# Altium integrated library Altera MAX 7000S.IntLib: 338 symbols (part 16 of 20)
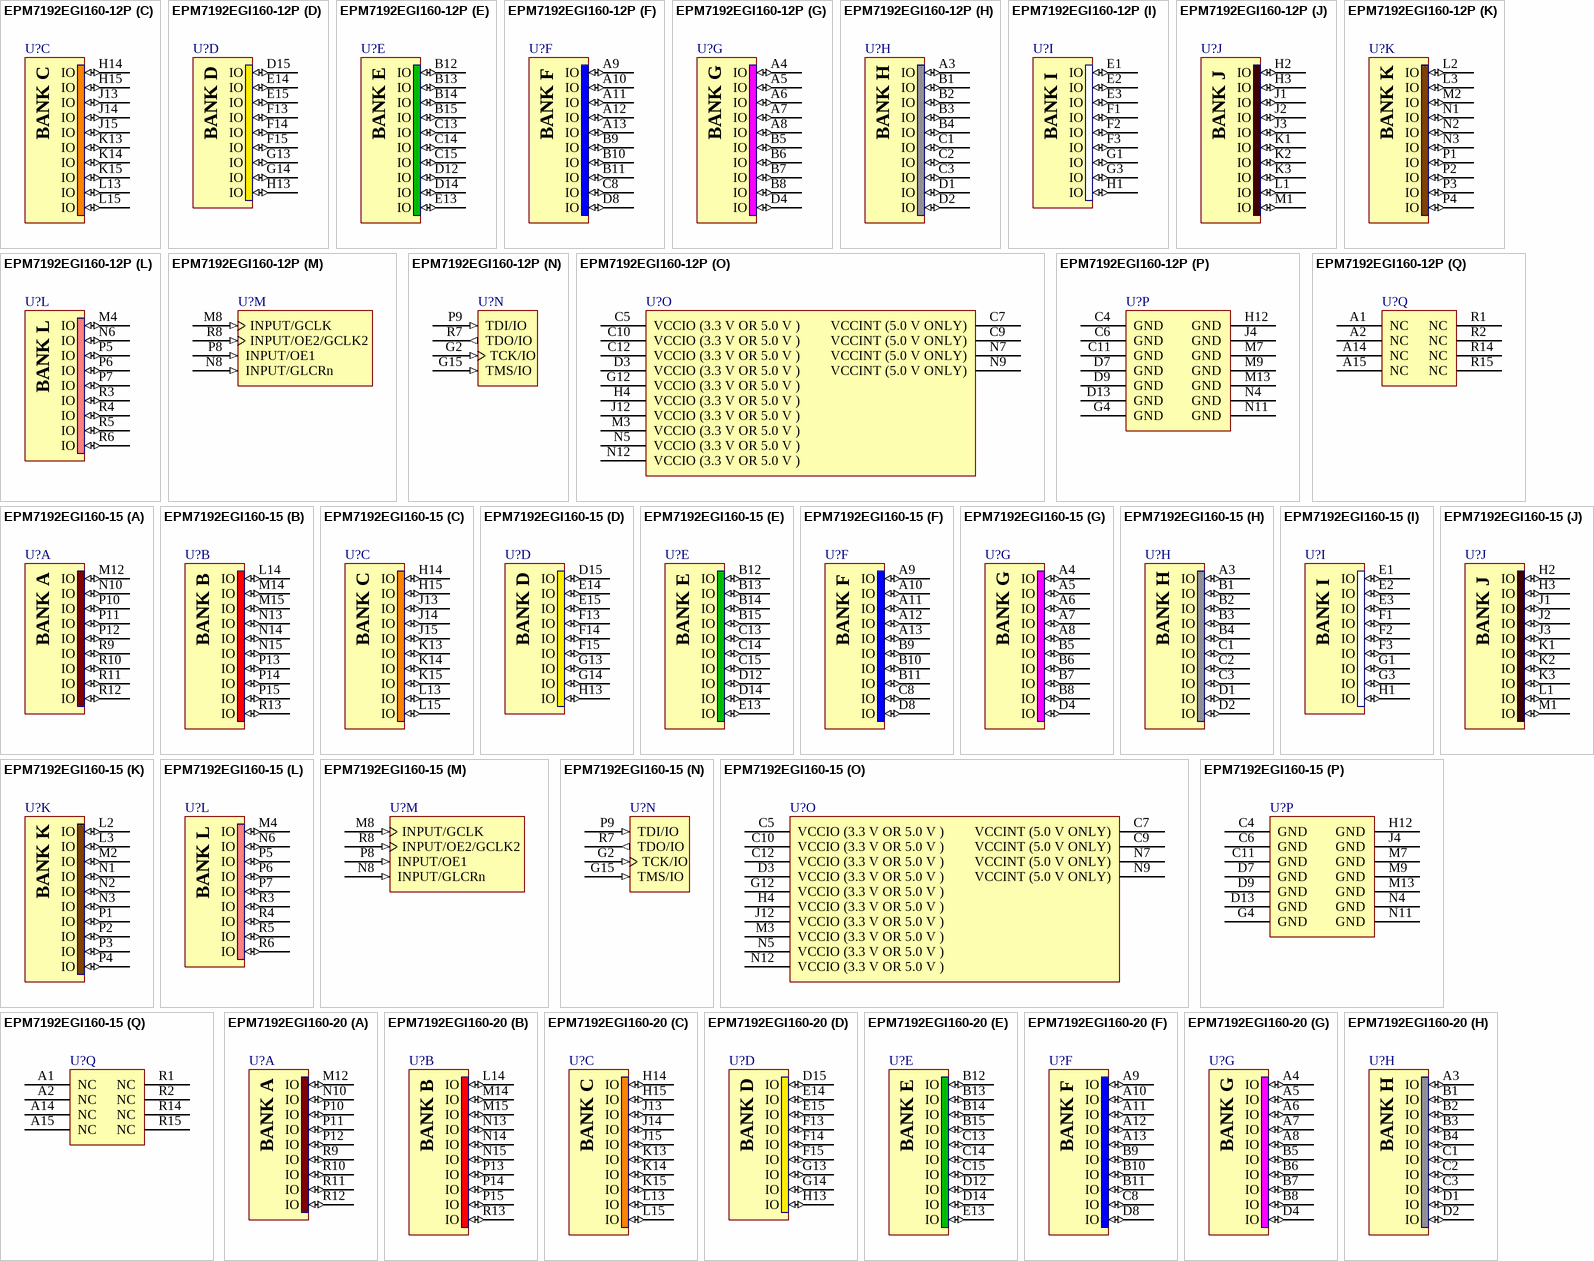
[diagram p119: symbols EPM7192EGI160-12P to EPM7192EGI160-20]

## EPM7192EGI160-12P
designator U?
MAX 7000E 5V CPLD, 192 Macrocells, 160-Pin PGA, Speed Grade 12P, Industrial Grade; Published: 17-Sep-2003; LatestRevisionDate: 16-Dec-2005; LatestRevisionNote: Banks placed in parts.; DatasheetVersion: ver6.7, Sep-2005; PackageVersion: ver14.3, Jul-2006; PackageReference: PGA160; Publisher: Altium Limited; PackageDescription: 160-Pin Ceramic Pin Grid Array (PGA160); Code_JEDEC: MO-067-AG; ComponentLink1Description: Manufacturer Link; ComponentLink1URL: http://www.altera.com/products/devices/max7k/m7k-index.html; ComponentLink2Description: Datasheet; ComponentLink2URL: http://www.altera.com/literature/ds/m7000.pdf; ComponentLink3Description: Packaging Specification; ComponentLink3URL: http://www.altera.com/literature/ds/dspkg.pdf
footprint PGA160 (PGA, 160-Leads, Body 39.6x39.6mm, Pitch 2.54mm)
3D model EPM7192E-PGA160 (160-Pin Ceramic Pin Grid Array (PGA160))
signal-integrity model 7k (MAX 7000S)
part A pins: M12 IO (io), N10 IO (io), P10 IO (io), P11 IO (io), P12 IO (io), R9 IO (io), R10 IO (io), R11 IO (io), R12 IO (io)
part B pins: L14 IO (io), M14 IO (io), M15 IO (io), N13 IO (io), N14 IO (io), N15 IO (io), P13 IO (io), P14 IO (io), P15 IO (io), R13 IO (io)
part C pins: H14 IO (io), H15 IO (io), J13 IO (io), J14 IO (io), J15 IO (io), K13 IO (io), K14 IO (io), K15 IO (io), L13 IO (io), L15 IO (io)
part D pins: D15 IO (io), E14 IO (io), E15 IO (io), F13 IO (io), F14 IO (io), F15 IO (io), G13 IO (io), G14 IO (io), H13 IO (io)
part E pins: B12 IO (io), B13 IO (io), B14 IO (io), B15 IO (io), C13 IO (io), C14 IO (io), C15 IO (io), D12 IO (io), D14 IO (io), E13 IO (io)
part F pins: A9 IO (io), A10 IO (io), A11 IO (io), A12 IO (io), A13 IO (io), B9 IO (io), B10 IO (io), B11 IO (io), C8 IO (io), D8 IO (io)
part G pins: A4 IO (io), A5 IO (io), A6 IO (io), A7 IO (io), A8 IO (io), B5 IO (io), B6 IO (io), B7 IO (io), B8 IO (io), D4 IO (io)
part H pins: A3 IO (io), B1 IO (io), B2 IO (io), B3 IO (io), B4 IO (io), C1 IO (io), C2 IO (io), C3 IO (io), D1 IO (io), D2 IO (io)
part I pins: E1 IO (io), E2 IO (io), E3 IO (io), F1 IO (io), F2 IO (io), F3 IO (io), G1 IO (io), G3 IO (io), H1 IO (io)
part J pins: H2 IO (io), H3 IO (io), J1 IO (io), J2 IO (io), J3 IO (io), K1 IO (io), K2 IO (io), K3 IO (io), L1 IO (io), M1 IO (io)
part K pins: L2 IO (io), L3 IO (io), M2 IO (io), N1 IO (io), N2 IO (io), N3 IO (io), P1 IO (io), P2 IO (io), P3 IO (io), P4 IO (io)
part L pins: M4 IO (io), N6 IO (io), P5 IO (io), P6 IO (io), P7 IO (io), R3 IO (io), R4 IO (io), R5 IO (io), R6 IO (io)
part M pins: M8 INPUT/GCLK (in), N8 INPUT/GLCRn (in), P8 INPUT/OE1 (in), R8 INPUT/OE2/GCLK2 (in)
part N pins: G2 TCK/IO (in), G15 TMS/IO (in), P9 TDI/IO (in), R7 TDO/IO (out)
part O pins: C5 VCCIO (3.3 V OR 5.0 V ) (power), C7 VCCINT (5.0 V ONLY) (power), C9 VCCINT (5.0 V ONLY) (power), C10 VCCIO (3.3 V OR 5.0 V ) (power), C12 VCCIO (3.3 V OR 5.0 V ) (power), D3 VCCIO (3.3 V OR 5.0 V ) (power), G12 VCCIO (3.3 V OR 5.0 V ) (power), H4 VCCIO (3.3 V OR 5.0 V ) (power), J12 VCCIO (3.3 V OR 5.0 V ) (power), M3 VCCIO (3.3 V OR 5.0 V ) (power), N5 VCCIO (3.3 V OR 5.0 V ) (power), N7 VCCINT (5.0 V ONLY) (power), N9 VCCINT (5.0 V ONLY) (power), N12 VCCIO (3.3 V OR 5.0 V ) (power)
part P pins: C4 GND (power), C6 GND (power), C11 GND (power), D7 GND (power), D9 GND (power), D13 GND (power), G4 GND (power), H12 GND (power), J4 GND (power), M7 GND (power), M9 GND (power), M13 GND (power), N4 GND (power), N11 GND (power)
part Q pins: A1 NC, A2 NC, A14 NC, A15 NC, R1 NC, R2 NC, R14 NC, R15 NC
part A text: BANK A
part B text: BANK B
part C text: BANK C
part D text: BANK D
part E text: BANK E
part F text: BANK F
part G text: BANK G
part H text: BANK H
part I text: BANK I
part J text: BANK J
part K text: BANK K
part L text: BANK L

## EPM7192EGI160-15
designator U?
MAX 7000E 5V CPLD, 192 Macrocells, 160-Pin PGA, Speed Grade 15, Industrial Grade; Published: 24-Nov-2000; LatestRevisionDate: 16-Dec-2005; LatestRevisionNote: Banks placed in parts.; DatasheetVersion: ver6.7, Sep-2005; PackageVersion: ver14.3, Jul-2006; PackageReference: PGA160; Publisher: Altium Limited; PackageDescription: 160-Pin Ceramic Pin Grid Array (PGA160); Code_JEDEC: MO-067-AG; ComponentLink1Description: Manufacturer Link; ComponentLink1URL: http://www.altera.com/products/devices/max7k/m7k-index.html; ComponentLink2Description: Datasheet; ComponentLink2URL: http://www.altera.com/literature/ds/m7000.pdf; ComponentLink3Description: Packaging Specification; ComponentLink3URL: http://www.altera.com/literature/ds/dspkg.pdf
footprint PGA160 (PGA, 160-Leads, Body 39.6x39.6mm, Pitch 2.54mm)
3D model EPM7192E-PGA160 (160-Pin Ceramic Pin Grid Array (PGA160))
signal-integrity model 7k (MAX 7000S)
part A pins: M12 IO (io), N10 IO (io), P10 IO (io), P11 IO (io), P12 IO (io), R9 IO (io), R10 IO (io), R11 IO (io), R12 IO (io)
part B pins: L14 IO (io), M14 IO (io), M15 IO (io), N13 IO (io), N14 IO (io), N15 IO (io), P13 IO (io), P14 IO (io), P15 IO (io), R13 IO (io)
part C pins: H14 IO (io), H15 IO (io), J13 IO (io), J14 IO (io), J15 IO (io), K13 IO (io), K14 IO (io), K15 IO (io), L13 IO (io), L15 IO (io)
part D pins: D15 IO (io), E14 IO (io), E15 IO (io), F13 IO (io), F14 IO (io), F15 IO (io), G13 IO (io), G14 IO (io), H13 IO (io)
part E pins: B12 IO (io), B13 IO (io), B14 IO (io), B15 IO (io), C13 IO (io), C14 IO (io), C15 IO (io), D12 IO (io), D14 IO (io), E13 IO (io)
part F pins: A9 IO (io), A10 IO (io), A11 IO (io), A12 IO (io), A13 IO (io), B9 IO (io), B10 IO (io), B11 IO (io), C8 IO (io), D8 IO (io)
part G pins: A4 IO (io), A5 IO (io), A6 IO (io), A7 IO (io), A8 IO (io), B5 IO (io), B6 IO (io), B7 IO (io), B8 IO (io), D4 IO (io)
part H pins: A3 IO (io), B1 IO (io), B2 IO (io), B3 IO (io), B4 IO (io), C1 IO (io), C2 IO (io), C3 IO (io), D1 IO (io), D2 IO (io)
part I pins: E1 IO (io), E2 IO (io), E3 IO (io), F1 IO (io), F2 IO (io), F3 IO (io), G1 IO (io), G3 IO (io), H1 IO (io)
part J pins: H2 IO (io), H3 IO (io), J1 IO (io), J2 IO (io), J3 IO (io), K1 IO (io), K2 IO (io), K3 IO (io), L1 IO (io), M1 IO (io)
part K pins: L2 IO (io), L3 IO (io), M2 IO (io), N1 IO (io), N2 IO (io), N3 IO (io), P1 IO (io), P2 IO (io), P3 IO (io), P4 IO (io)
part L pins: M4 IO (io), N6 IO (io), P5 IO (io), P6 IO (io), P7 IO (io), R3 IO (io), R4 IO (io), R5 IO (io), R6 IO (io)
part M pins: M8 INPUT/GCLK (in), N8 INPUT/GLCRn (in), P8 INPUT/OE1 (in), R8 INPUT/OE2/GCLK2 (in)
part N pins: G2 TCK/IO (in), G15 TMS/IO (in), P9 TDI/IO (in), R7 TDO/IO (out)
part O pins: C5 VCCIO (3.3 V OR 5.0 V ) (power), C7 VCCINT (5.0 V ONLY) (power), C9 VCCINT (5.0 V ONLY) (power), C10 VCCIO (3.3 V OR 5.0 V ) (power), C12 VCCIO (3.3 V OR 5.0 V ) (power), D3 VCCIO (3.3 V OR 5.0 V ) (power), G12 VCCIO (3.3 V OR 5.0 V ) (power), H4 VCCIO (3.3 V OR 5.0 V ) (power), J12 VCCIO (3.3 V OR 5.0 V ) (power), M3 VCCIO (3.3 V OR 5.0 V ) (power), N5 VCCIO (3.3 V OR 5.0 V ) (power), N7 VCCINT (5.0 V ONLY) (power), N9 VCCINT (5.0 V ONLY) (power), N12 VCCIO (3.3 V OR 5.0 V ) (power)
part P pins: C4 GND (power), C6 GND (power), C11 GND (power), D7 GND (power), D9 GND (power), D13 GND (power), G4 GND (power), H12 GND (power), J4 GND (power), M7 GND (power), M9 GND (power), M13 GND (power), N4 GND (power), N11 GND (power)
part Q pins: A1 NC, A2 NC, A14 NC, A15 NC, R1 NC, R2 NC, R14 NC, R15 NC
part A text: BANK A
part B text: BANK B
part C text: BANK C
part D text: BANK D
part E text: BANK E
part F text: BANK F
part G text: BANK G
part H text: BANK H
part I text: BANK I
part J text: BANK J
part K text: BANK K
part L text: BANK L

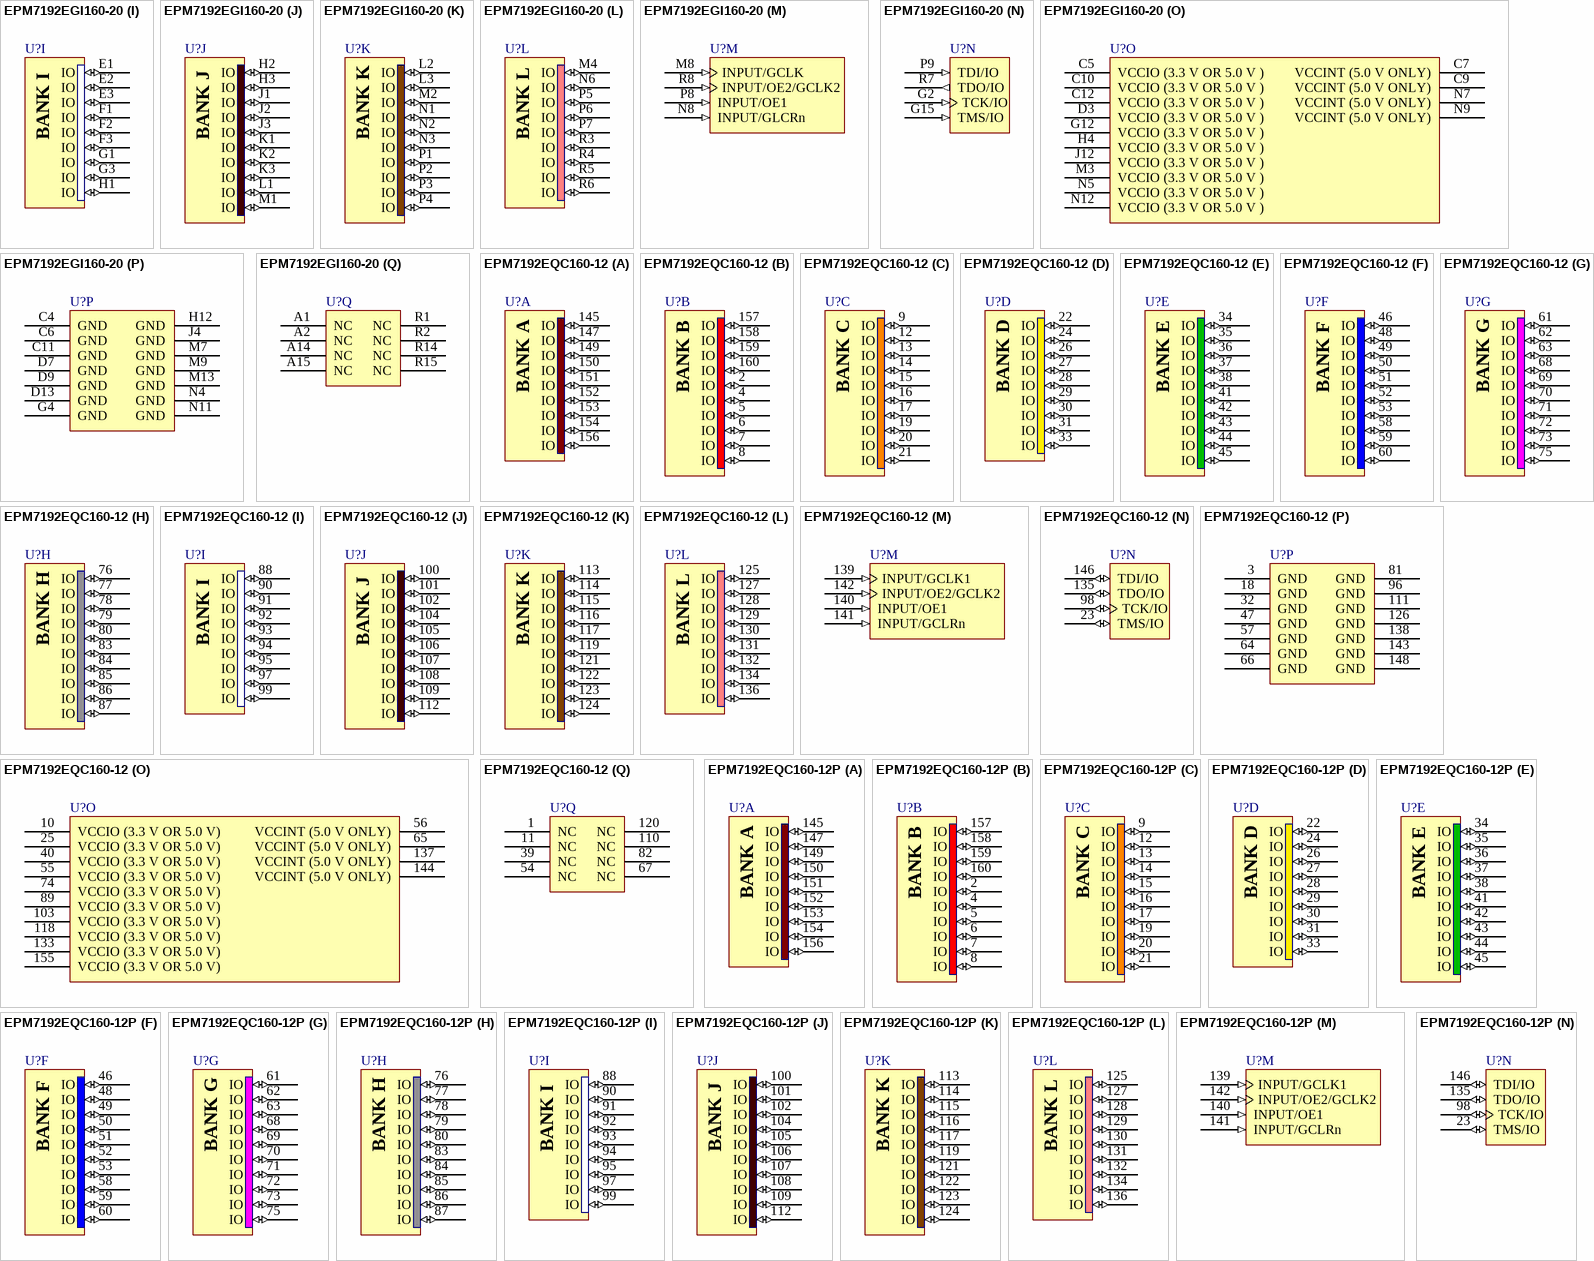
[diagram p80: symbols EPM7192EGI160-20 to EPM7192EQC160-12P]

## EPM7192EGI160-20
designator U?
MAX 7000E 5V CPLD, 192 Macrocells, 160-Pin PGA, Speed Grade 20, Industrial Grade; Published: 24-Nov-2000; LatestRevisionDate: 16-Dec-2005; LatestRevisionNote: Banks placed in parts.; DatasheetVersion: ver6.7, Sep-2005; PackageVersion: ver14.3, Jul-2006; PackageReference: PGA160; Publisher: Altium Limited; PackageDescription: 160-Pin Ceramic Pin Grid Array (PGA160); Supplier 1: Digi-Key; Supplier Part Number 1: 544-2341-ND; Code_JEDEC: MO-067-AG; ComponentLink1Description: Manufacturer Link; ComponentLink1URL: http://www.altera.com/products/devices/max7k/m7k-index.html; ComponentLink2Description: Datasheet; ComponentLink2URL: http://www.altera.com/literature/ds/m7000.pdf; ComponentLink3Description: Packaging Specification; ComponentLink3URL: http://www.altera.com/literature/ds/dspkg.pdf
footprint PGA160 (PGA, 160-Leads, Body 39.6x39.6mm, Pitch 2.54mm)
3D model EPM7192E-PGA160 (160-Pin Ceramic Pin Grid Array (PGA160))
signal-integrity model 7k (MAX 7000S)
part A pins: M12 IO (io), N10 IO (io), P10 IO (io), P11 IO (io), P12 IO (io), R9 IO (io), R10 IO (io), R11 IO (io), R12 IO (io)
part B pins: L14 IO (io), M14 IO (io), M15 IO (io), N13 IO (io), N14 IO (io), N15 IO (io), P13 IO (io), P14 IO (io), P15 IO (io), R13 IO (io)
part C pins: H14 IO (io), H15 IO (io), J13 IO (io), J14 IO (io), J15 IO (io), K13 IO (io), K14 IO (io), K15 IO (io), L13 IO (io), L15 IO (io)
part D pins: D15 IO (io), E14 IO (io), E15 IO (io), F13 IO (io), F14 IO (io), F15 IO (io), G13 IO (io), G14 IO (io), H13 IO (io)
part E pins: B12 IO (io), B13 IO (io), B14 IO (io), B15 IO (io), C13 IO (io), C14 IO (io), C15 IO (io), D12 IO (io), D14 IO (io), E13 IO (io)
part F pins: A9 IO (io), A10 IO (io), A11 IO (io), A12 IO (io), A13 IO (io), B9 IO (io), B10 IO (io), B11 IO (io), C8 IO (io), D8 IO (io)
part G pins: A4 IO (io), A5 IO (io), A6 IO (io), A7 IO (io), A8 IO (io), B5 IO (io), B6 IO (io), B7 IO (io), B8 IO (io), D4 IO (io)
part H pins: A3 IO (io), B1 IO (io), B2 IO (io), B3 IO (io), B4 IO (io), C1 IO (io), C2 IO (io), C3 IO (io), D1 IO (io), D2 IO (io)
part I pins: E1 IO (io), E2 IO (io), E3 IO (io), F1 IO (io), F2 IO (io), F3 IO (io), G1 IO (io), G3 IO (io), H1 IO (io)
part J pins: H2 IO (io), H3 IO (io), J1 IO (io), J2 IO (io), J3 IO (io), K1 IO (io), K2 IO (io), K3 IO (io), L1 IO (io), M1 IO (io)
part K pins: L2 IO (io), L3 IO (io), M2 IO (io), N1 IO (io), N2 IO (io), N3 IO (io), P1 IO (io), P2 IO (io), P3 IO (io), P4 IO (io)
part L pins: M4 IO (io), N6 IO (io), P5 IO (io), P6 IO (io), P7 IO (io), R3 IO (io), R4 IO (io), R5 IO (io), R6 IO (io)
part M pins: M8 INPUT/GCLK (in), N8 INPUT/GLCRn (in), P8 INPUT/OE1 (in), R8 INPUT/OE2/GCLK2 (in)
part N pins: G2 TCK/IO (in), G15 TMS/IO (in), P9 TDI/IO (in), R7 TDO/IO (out)
part O pins: C5 VCCIO (3.3 V OR 5.0 V ) (power), C7 VCCINT (5.0 V ONLY) (power), C9 VCCINT (5.0 V ONLY) (power), C10 VCCIO (3.3 V OR 5.0 V ) (power), C12 VCCIO (3.3 V OR 5.0 V ) (power), D3 VCCIO (3.3 V OR 5.0 V ) (power), G12 VCCIO (3.3 V OR 5.0 V ) (power), H4 VCCIO (3.3 V OR 5.0 V ) (power), J12 VCCIO (3.3 V OR 5.0 V ) (power), M3 VCCIO (3.3 V OR 5.0 V ) (power), N5 VCCIO (3.3 V OR 5.0 V ) (power), N7 VCCINT (5.0 V ONLY) (power), N9 VCCINT (5.0 V ONLY) (power), N12 VCCIO (3.3 V OR 5.0 V ) (power)
part P pins: C4 GND (power), C6 GND (power), C11 GND (power), D7 GND (power), D9 GND (power), D13 GND (power), G4 GND (power), H12 GND (power), J4 GND (power), M7 GND (power), M9 GND (power), M13 GND (power), N4 GND (power), N11 GND (power)
part Q pins: A1 NC, A2 NC, A14 NC, A15 NC, R1 NC, R2 NC, R14 NC, R15 NC
part A text: BANK A
part B text: BANK B
part C text: BANK C
part D text: BANK D
part E text: BANK E
part F text: BANK F
part G text: BANK G
part H text: BANK H
part I text: BANK I
part J text: BANK J
part K text: BANK K
part L text: BANK L

## EPM7192EQC160-12
designator U?
MAX 7000E 5V CPLD, 192 Macrocells, 160-Pin PQFP, Speed Grade 12, Commercial Grade; Published: 24-Nov-2000; LatestRevisionDate: 13-Apr-2006; LatestRevisionNote: IPC-7351 Footprint Added.; DatasheetVersion: ver6.7, Sep-2005; PackageVersion: ver14.3, Jul-2006; PackageReference: PQFP160; Publisher: Altium Limited; PackageDescription: 160-Pin Plastic Quad Flat Pack (PFQP160); Code_JEDEC: MS-022-DD-1; Code_IPC: QFP65P3120X3120-160; ComponentLink1Description: Manufacturer Link; ComponentLink1URL: http://www.altera.com/products/devices/max7k/m7k-index.html; ComponentLink2Description: Datasheet; ComponentLink2URL: http://www.altera.com/literature/ds/m7000.pdf; ComponentLink3Description: Packaging Specification; ComponentLink3URL: http://www.altera.com/literature/ds/dspkg.pdf
footprint PQFP160_N (QFP, 160-Leads, Body 28x28mm, Pitch 0.65mm, IPC Medium Density)
footprint PQFP160_L (QFP, 160-Leads, Body 28x28mm, Pitch 0.65mm, IPC High Density)
footprint PQFP160_M (QFP, 160-Leads, Body 28x28mm, Pitch 0.65mm, IPC Low Density)
3D model EPM7192E-PQFP160 (160-Pin Plastic Quad Flat Pack (PFQP160))
signal-integrity model 7k (MAX 7000S)
part A pins: 145 IO (io), 147 IO (io), 149 IO (io), 150 IO (io), 151 IO (io), 152 IO (io), 153 IO (io), 154 IO (io), 156 IO (io)
part B pins: 2 IO (io), 4 IO (io), 5 IO (io), 6 IO (io), 7 IO (io), 8 IO (io), 157 IO (io), 158 IO (io), 159 IO (io), 160 IO (io)
part C pins: 9 IO (io), 12 IO (io), 13 IO (io), 14 IO (io), 15 IO (io), 16 IO (io), 17 IO (io), 19 IO (io), 20 IO (io), 21 IO (io)
part D pins: 22 IO (io), 24 IO (io), 26 IO (io), 27 IO (io), 28 IO (io), 29 IO (io), 30 IO (io), 31 IO (io), 33 IO (io)
part E pins: 34 IO (io), 35 IO (io), 36 IO (io), 37 IO (io), 38 IO (io), 41 IO (io), 42 IO (io), 43 IO (io), 44 IO (io), 45 IO (io)
part F pins: 46 IO (io), 48 IO (io), 49 IO (io), 50 IO (io), 51 IO (io), 52 IO (io), 53 IO (io), 58 IO (io), 59 IO (io), 60 IO (io)
part G pins: 61 IO (io), 62 IO (io), 63 IO (io), 68 IO (io), 69 IO (io), 70 IO (io), 71 IO (io), 72 IO (io), 73 IO (io), 75 IO (io)
part H pins: 76 IO (io), 77 IO (io), 78 IO (io), 79 IO (io), 80 IO (io), 83 IO (io), 84 IO (io), 85 IO (io), 86 IO (io), 87 IO (io)
part I pins: 88 IO (io), 90 IO (io), 91 IO (io), 92 IO (io), 93 IO (io), 94 IO (io), 95 IO (io), 97 IO (io), 99 IO (io)
part J pins: 100 IO (io), 101 IO (io), 102 IO (io), 104 IO (io), 105 IO (io), 106 IO (io), 107 IO (io), 108 IO (io), 109 IO (io), 112 IO (io)
part K pins: 113 IO (io), 114 IO (io), 115 IO (io), 116 IO (io), 117 IO (io), 119 IO (io), 121 IO (io), 122 IO (io), 123 IO (io), 124 IO (io)
part L pins: 125 IO (io), 127 IO (io), 128 IO (io), 129 IO (io), 130 IO (io), 131 IO (io), 132 IO (io), 134 IO (io), 136 IO (io)
part M pins: 139 INPUT/GCLK1 (in), 140 INPUT/OE1 (in), 141 INPUT/GCLRn (in), 142 INPUT/OE2/GCLK2 (in)
part N pins: 23 TMS/IO (io), 98 TCK/IO (io), 135 TDO/IO (io), 146 TDI/IO (io)
part O pins: 10 VCCIO (3.3 V OR 5.0 V) (power), 25 VCCIO (3.3 V OR 5.0 V) (power), 40 VCCIO (3.3 V OR 5.0 V) (power), 55 VCCIO (3.3 V OR 5.0 V) (power), 56 VCCINT (5.0 V ONLY) (power), 65 VCCINT (5.0 V ONLY) (power), 74 VCCIO (3.3 V OR 5.0 V) (power), 89 VCCIO (3.3 V OR 5.0 V) (power), 103 VCCIO (3.3 V OR 5.0 V) (power), 118 VCCIO (3.3 V OR 5.0 V) (power), 133 VCCIO (3.3 V OR 5.0 V) (power), 137 VCCINT (5.0 V ONLY) (power), 144 VCCINT (5.0 V ONLY) (power), 155 VCCIO (3.3 V OR 5.0 V) (power)
part P pins: 3 GND (power), 18 GND (power), 32 GND (power), 47 GND (power), 57 GND (power), 64 GND (power), 66 GND (power), 81 GND (power), 96 GND (power), 111 GND (power), 126 GND (power), 138 GND (power), 143 GND (power), 148 GND (power)
part Q pins: 1 NC, 11 NC, 39 NC, 54 NC, 67 NC, 82 NC, 110 NC, 120 NC
part A text: BANK A
part B text: BANK B
part C text: BANK C
part D text: BANK D
part E text: BANK E
part F text: BANK F
part G text: BANK G
part H text: BANK H
part I text: BANK I
part J text: BANK J
part K text: BANK K
part L text: BANK L

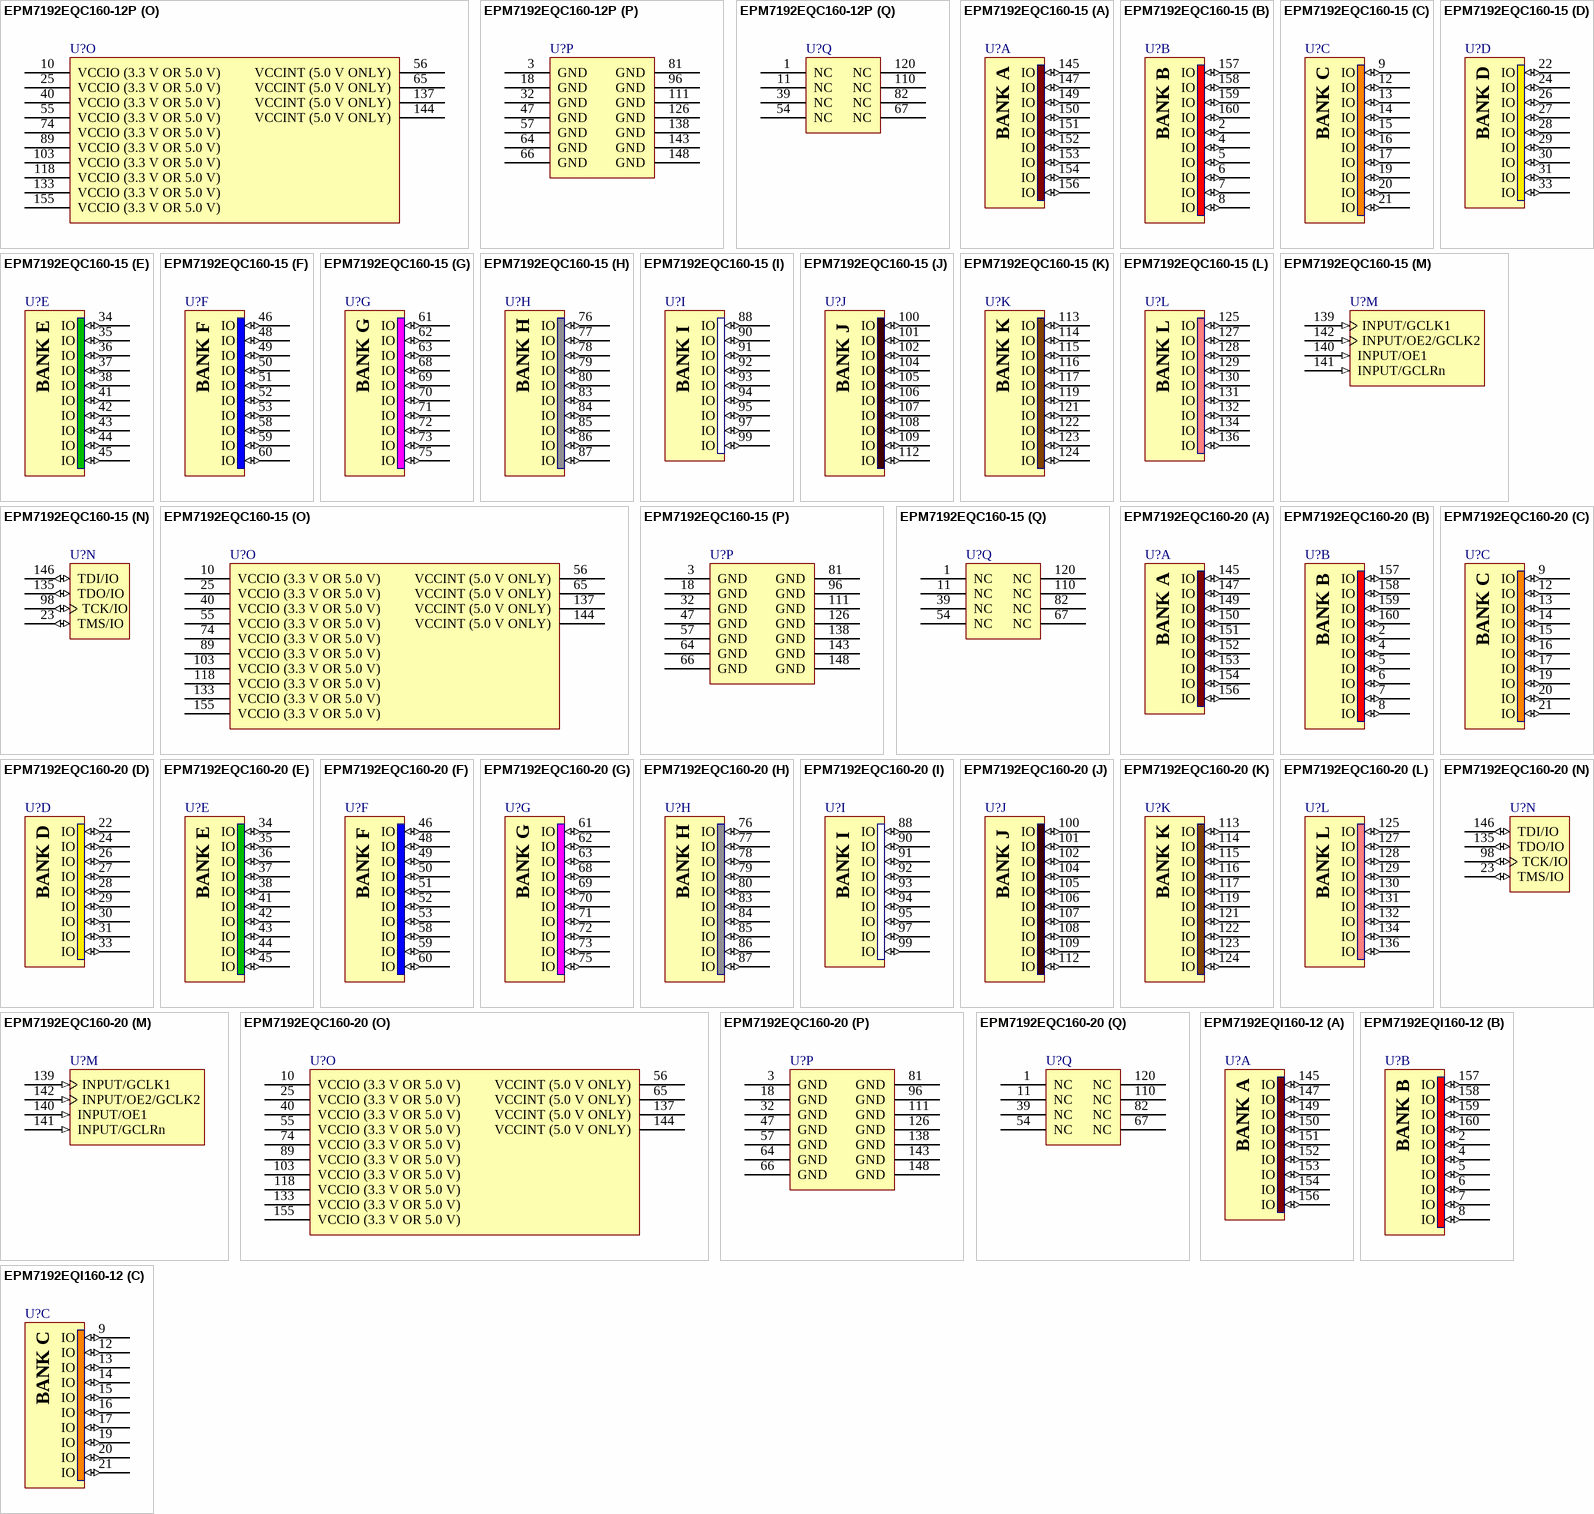
[diagram p81: symbols EPM7192EQC160-12P to EPM7192EQI160-12]

## EPM7192EQC160-12P
designator U?
MAX 7000E 5V CPLD, 192 Macrocells, 160-Pin PQFP, Speed Grade 12P, Commercial Grade; Published: 24-Nov-2000; LatestRevisionDate: 13-Apr-2006; LatestRevisionNote: IPC-7351 Footprint Added.; DatasheetVersion: ver6.7, Sep-2005; PackageVersion: ver14.3, Jul-2006; PackageReference: PQFP160; Publisher: Altium Limited; PackageDescription: 160-Pin Plastic Quad Flat Pack (PFQP160); Code_JEDEC: MS-022-DD-1; Code_IPC: QFP65P3120X3120-160; ComponentLink1Description: Manufacturer Link; ComponentLink1URL: http://www.altera.com/products/devices/max7k/m7k-index.html; ComponentLink2Description: Datasheet; ComponentLink2URL: http://www.altera.com/literature/ds/m7000.pdf; ComponentLink3Description: Packaging Specification; ComponentLink3URL: http://www.altera.com/literature/ds/dspkg.pdf
footprint PQFP160_N (QFP, 160-Leads, Body 28x28mm, Pitch 0.65mm, IPC Medium Density)
footprint PQFP160_L (QFP, 160-Leads, Body 28x28mm, Pitch 0.65mm, IPC High Density)
footprint PQFP160_M (QFP, 160-Leads, Body 28x28mm, Pitch 0.65mm, IPC Low Density)
3D model EPM7192E-PQFP160 (160-Pin Plastic Quad Flat Pack (PFQP160))
signal-integrity model 7k (MAX 7000S)
part A pins: 145 IO (io), 147 IO (io), 149 IO (io), 150 IO (io), 151 IO (io), 152 IO (io), 153 IO (io), 154 IO (io), 156 IO (io)
part B pins: 2 IO (io), 4 IO (io), 5 IO (io), 6 IO (io), 7 IO (io), 8 IO (io), 157 IO (io), 158 IO (io), 159 IO (io), 160 IO (io)
part C pins: 9 IO (io), 12 IO (io), 13 IO (io), 14 IO (io), 15 IO (io), 16 IO (io), 17 IO (io), 19 IO (io), 20 IO (io), 21 IO (io)
part D pins: 22 IO (io), 24 IO (io), 26 IO (io), 27 IO (io), 28 IO (io), 29 IO (io), 30 IO (io), 31 IO (io), 33 IO (io)
part E pins: 34 IO (io), 35 IO (io), 36 IO (io), 37 IO (io), 38 IO (io), 41 IO (io), 42 IO (io), 43 IO (io), 44 IO (io), 45 IO (io)
part F pins: 46 IO (io), 48 IO (io), 49 IO (io), 50 IO (io), 51 IO (io), 52 IO (io), 53 IO (io), 58 IO (io), 59 IO (io), 60 IO (io)
part G pins: 61 IO (io), 62 IO (io), 63 IO (io), 68 IO (io), 69 IO (io), 70 IO (io), 71 IO (io), 72 IO (io), 73 IO (io), 75 IO (io)
part H pins: 76 IO (io), 77 IO (io), 78 IO (io), 79 IO (io), 80 IO (io), 83 IO (io), 84 IO (io), 85 IO (io), 86 IO (io), 87 IO (io)
part I pins: 88 IO (io), 90 IO (io), 91 IO (io), 92 IO (io), 93 IO (io), 94 IO (io), 95 IO (io), 97 IO (io), 99 IO (io)
part J pins: 100 IO (io), 101 IO (io), 102 IO (io), 104 IO (io), 105 IO (io), 106 IO (io), 107 IO (io), 108 IO (io), 109 IO (io), 112 IO (io)
part K pins: 113 IO (io), 114 IO (io), 115 IO (io), 116 IO (io), 117 IO (io), 119 IO (io), 121 IO (io), 122 IO (io), 123 IO (io), 124 IO (io)
part L pins: 125 IO (io), 127 IO (io), 128 IO (io), 129 IO (io), 130 IO (io), 131 IO (io), 132 IO (io), 134 IO (io), 136 IO (io)
part M pins: 139 INPUT/GCLK1 (in), 140 INPUT/OE1 (in), 141 INPUT/GCLRn (in), 142 INPUT/OE2/GCLK2 (in)
part N pins: 23 TMS/IO (io), 98 TCK/IO (io), 135 TDO/IO (io), 146 TDI/IO (io)
part O pins: 10 VCCIO (3.3 V OR 5.0 V) (power), 25 VCCIO (3.3 V OR 5.0 V) (power), 40 VCCIO (3.3 V OR 5.0 V) (power), 55 VCCIO (3.3 V OR 5.0 V) (power), 56 VCCINT (5.0 V ONLY) (power), 65 VCCINT (5.0 V ONLY) (power), 74 VCCIO (3.3 V OR 5.0 V) (power), 89 VCCIO (3.3 V OR 5.0 V) (power), 103 VCCIO (3.3 V OR 5.0 V) (power), 118 VCCIO (3.3 V OR 5.0 V) (power), 133 VCCIO (3.3 V OR 5.0 V) (power), 137 VCCINT (5.0 V ONLY) (power), 144 VCCINT (5.0 V ONLY) (power), 155 VCCIO (3.3 V OR 5.0 V) (power)
part P pins: 3 GND (power), 18 GND (power), 32 GND (power), 47 GND (power), 57 GND (power), 64 GND (power), 66 GND (power), 81 GND (power), 96 GND (power), 111 GND (power), 126 GND (power), 138 GND (power), 143 GND (power), 148 GND (power)
part Q pins: 1 NC, 11 NC, 39 NC, 54 NC, 67 NC, 82 NC, 110 NC, 120 NC
part A text: BANK A
part B text: BANK B
part C text: BANK C
part D text: BANK D
part E text: BANK E
part F text: BANK F
part G text: BANK G
part H text: BANK H
part I text: BANK I
part J text: BANK J
part K text: BANK K
part L text: BANK L

## EPM7192EQC160-15
designator U?
MAX 7000E 5V CPLD, 192 Macrocells, 160-Pin PQFP, Speed Grade 15, Commercial Grade; Published: 24-Nov-2000; LatestRevisionDate: 13-Apr-2006; LatestRevisionNote: IPC-7351 Footprint Added.; DatasheetVersion: ver6.7, Sep-2005; PackageVersion: ver14.3, Jul-2006; PackageReference: PQFP160; Publisher: Altium Limited; PackageDescription: 160-Pin Plastic Quad Flat Pack (PFQP160); Code_JEDEC: MS-022-DD-1; Code_IPC: QFP65P3120X3120-160; ComponentLink1Description: Manufacturer Link; ComponentLink1URL: http://www.altera.com/products/devices/max7k/m7k-index.html; ComponentLink2Description: Datasheet; ComponentLink2URL: http://www.altera.com/literature/ds/m7000.pdf; ComponentLink3Description: Packaging Specification; ComponentLink3URL: http://www.altera.com/literature/ds/dspkg.pdf
footprint PQFP160_N (QFP, 160-Leads, Body 28x28mm, Pitch 0.65mm, IPC Medium Density)
footprint PQFP160_L (QFP, 160-Leads, Body 28x28mm, Pitch 0.65mm, IPC High Density)
footprint PQFP160_M (QFP, 160-Leads, Body 28x28mm, Pitch 0.65mm, IPC Low Density)
3D model EPM7192E-PQFP160 (160-Pin Plastic Quad Flat Pack (PFQP160))
signal-integrity model 7k (MAX 7000S)
part A pins: 145 IO (io), 147 IO (io), 149 IO (io), 150 IO (io), 151 IO (io), 152 IO (io), 153 IO (io), 154 IO (io), 156 IO (io)
part B pins: 2 IO (io), 4 IO (io), 5 IO (io), 6 IO (io), 7 IO (io), 8 IO (io), 157 IO (io), 158 IO (io), 159 IO (io), 160 IO (io)
part C pins: 9 IO (io), 12 IO (io), 13 IO (io), 14 IO (io), 15 IO (io), 16 IO (io), 17 IO (io), 19 IO (io), 20 IO (io), 21 IO (io)
part D pins: 22 IO (io), 24 IO (io), 26 IO (io), 27 IO (io), 28 IO (io), 29 IO (io), 30 IO (io), 31 IO (io), 33 IO (io)
part E pins: 34 IO (io), 35 IO (io), 36 IO (io), 37 IO (io), 38 IO (io), 41 IO (io), 42 IO (io), 43 IO (io), 44 IO (io), 45 IO (io)
part F pins: 46 IO (io), 48 IO (io), 49 IO (io), 50 IO (io), 51 IO (io), 52 IO (io), 53 IO (io), 58 IO (io), 59 IO (io), 60 IO (io)
part G pins: 61 IO (io), 62 IO (io), 63 IO (io), 68 IO (io), 69 IO (io), 70 IO (io), 71 IO (io), 72 IO (io), 73 IO (io), 75 IO (io)
part H pins: 76 IO (io), 77 IO (io), 78 IO (io), 79 IO (io), 80 IO (io), 83 IO (io), 84 IO (io), 85 IO (io), 86 IO (io), 87 IO (io)
part I pins: 88 IO (io), 90 IO (io), 91 IO (io), 92 IO (io), 93 IO (io), 94 IO (io), 95 IO (io), 97 IO (io), 99 IO (io)
part J pins: 100 IO (io), 101 IO (io), 102 IO (io), 104 IO (io), 105 IO (io), 106 IO (io), 107 IO (io), 108 IO (io), 109 IO (io), 112 IO (io)
part K pins: 113 IO (io), 114 IO (io), 115 IO (io), 116 IO (io), 117 IO (io), 119 IO (io), 121 IO (io), 122 IO (io), 123 IO (io), 124 IO (io)
part L pins: 125 IO (io), 127 IO (io), 128 IO (io), 129 IO (io), 130 IO (io), 131 IO (io), 132 IO (io), 134 IO (io), 136 IO (io)
part M pins: 139 INPUT/GCLK1 (in), 140 INPUT/OE1 (in), 141 INPUT/GCLRn (in), 142 INPUT/OE2/GCLK2 (in)
part N pins: 23 TMS/IO (io), 98 TCK/IO (io), 135 TDO/IO (io), 146 TDI/IO (io)
part O pins: 10 VCCIO (3.3 V OR 5.0 V) (power), 25 VCCIO (3.3 V OR 5.0 V) (power), 40 VCCIO (3.3 V OR 5.0 V) (power), 55 VCCIO (3.3 V OR 5.0 V) (power), 56 VCCINT (5.0 V ONLY) (power), 65 VCCINT (5.0 V ONLY) (power), 74 VCCIO (3.3 V OR 5.0 V) (power), 89 VCCIO (3.3 V OR 5.0 V) (power), 103 VCCIO (3.3 V OR 5.0 V) (power), 118 VCCIO (3.3 V OR 5.0 V) (power), 133 VCCIO (3.3 V OR 5.0 V) (power), 137 VCCINT (5.0 V ONLY) (power), 144 VCCINT (5.0 V ONLY) (power), 155 VCCIO (3.3 V OR 5.0 V) (power)
part P pins: 3 GND (power), 18 GND (power), 32 GND (power), 47 GND (power), 57 GND (power), 64 GND (power), 66 GND (power), 81 GND (power), 96 GND (power), 111 GND (power), 126 GND (power), 138 GND (power), 143 GND (power), 148 GND (power)
part Q pins: 1 NC, 11 NC, 39 NC, 54 NC, 67 NC, 82 NC, 110 NC, 120 NC
part A text: BANK A
part B text: BANK B
part C text: BANK C
part D text: BANK D
part E text: BANK E
part F text: BANK F
part G text: BANK G
part H text: BANK H
part I text: BANK I
part J text: BANK J
part K text: BANK K
part L text: BANK L

## EPM7192EQC160-20
designator U?
MAX 7000E 5V CPLD, 192 Macrocells, 160-Pin PQFP, Speed Grade 20, Commercial Grade; Published: 24-Nov-2000; LatestRevisionDate: 13-Apr-2006; LatestRevisionNote: IPC-7351 Footprint Added.; DatasheetVersion: ver6.7, Sep-2005; PackageVersion: ver14.3, Jul-2006; PackageReference: PQFP160; Publisher: Altium Limited; PackageDescription: 160-Pin Plastic Quad Flat Pack (PFQP160); Code_JEDEC: MS-022-DD-1; Code_IPC: QFP65P3120X3120-160; ComponentLink1Description: Manufacturer Link; ComponentLink1URL: http://www.altera.com/products/devices/max7k/m7k-index.html; ComponentLink2Description: Datasheet; ComponentLink2URL: http://www.altera.com/literature/ds/m7000.pdf; ComponentLink3Description: Packaging Specification; ComponentLink3URL: http://www.altera.com/literature/ds/dspkg.pdf
footprint PQFP160_N (QFP, 160-Leads, Body 28x28mm, Pitch 0.65mm, IPC Medium Density)
footprint PQFP160_L (QFP, 160-Leads, Body 28x28mm, Pitch 0.65mm, IPC High Density)
footprint PQFP160_M (QFP, 160-Leads, Body 28x28mm, Pitch 0.65mm, IPC Low Density)
3D model EPM7192E-PQFP160 (160-Pin Plastic Quad Flat Pack (PFQP160))
signal-integrity model 7k (MAX 7000S)
part A pins: 145 IO (io), 147 IO (io), 149 IO (io), 150 IO (io), 151 IO (io), 152 IO (io), 153 IO (io), 154 IO (io), 156 IO (io)
part B pins: 2 IO (io), 4 IO (io), 5 IO (io), 6 IO (io), 7 IO (io), 8 IO (io), 157 IO (io), 158 IO (io), 159 IO (io), 160 IO (io)
part C pins: 9 IO (io), 12 IO (io), 13 IO (io), 14 IO (io), 15 IO (io), 16 IO (io), 17 IO (io), 19 IO (io), 20 IO (io), 21 IO (io)
part D pins: 22 IO (io), 24 IO (io), 26 IO (io), 27 IO (io), 28 IO (io), 29 IO (io), 30 IO (io), 31 IO (io), 33 IO (io)
part E pins: 34 IO (io), 35 IO (io), 36 IO (io), 37 IO (io), 38 IO (io), 41 IO (io), 42 IO (io), 43 IO (io), 44 IO (io), 45 IO (io)
part F pins: 46 IO (io), 48 IO (io), 49 IO (io), 50 IO (io), 51 IO (io), 52 IO (io), 53 IO (io), 58 IO (io), 59 IO (io), 60 IO (io)
part G pins: 61 IO (io), 62 IO (io), 63 IO (io), 68 IO (io), 69 IO (io), 70 IO (io), 71 IO (io), 72 IO (io), 73 IO (io), 75 IO (io)
part H pins: 76 IO (io), 77 IO (io), 78 IO (io), 79 IO (io), 80 IO (io), 83 IO (io), 84 IO (io), 85 IO (io), 86 IO (io), 87 IO (io)
part I pins: 88 IO (io), 90 IO (io), 91 IO (io), 92 IO (io), 93 IO (io), 94 IO (io), 95 IO (io), 97 IO (io), 99 IO (io)
part J pins: 100 IO (io), 101 IO (io), 102 IO (io), 104 IO (io), 105 IO (io), 106 IO (io), 107 IO (io), 108 IO (io), 109 IO (io), 112 IO (io)
part K pins: 113 IO (io), 114 IO (io), 115 IO (io), 116 IO (io), 117 IO (io), 119 IO (io), 121 IO (io), 122 IO (io), 123 IO (io), 124 IO (io)
part L pins: 125 IO (io), 127 IO (io), 128 IO (io), 129 IO (io), 130 IO (io), 131 IO (io), 132 IO (io), 134 IO (io), 136 IO (io)
part M pins: 139 INPUT/GCLK1 (in), 140 INPUT/OE1 (in), 141 INPUT/GCLRn (in), 142 INPUT/OE2/GCLK2 (in)
part N pins: 23 TMS/IO (io), 98 TCK/IO (io), 135 TDO/IO (io), 146 TDI/IO (io)
part O pins: 10 VCCIO (3.3 V OR 5.0 V) (power), 25 VCCIO (3.3 V OR 5.0 V) (power), 40 VCCIO (3.3 V OR 5.0 V) (power), 55 VCCIO (3.3 V OR 5.0 V) (power), 56 VCCINT (5.0 V ONLY) (power), 65 VCCINT (5.0 V ONLY) (power), 74 VCCIO (3.3 V OR 5.0 V) (power), 89 VCCIO (3.3 V OR 5.0 V) (power), 103 VCCIO (3.3 V OR 5.0 V) (power), 118 VCCIO (3.3 V OR 5.0 V) (power), 133 VCCIO (3.3 V OR 5.0 V) (power), 137 VCCINT (5.0 V ONLY) (power), 144 VCCINT (5.0 V ONLY) (power), 155 VCCIO (3.3 V OR 5.0 V) (power)
part P pins: 3 GND (power), 18 GND (power), 32 GND (power), 47 GND (power), 57 GND (power), 64 GND (power), 66 GND (power), 81 GND (power), 96 GND (power), 111 GND (power), 126 GND (power), 138 GND (power), 143 GND (power), 148 GND (power)
part Q pins: 1 NC, 11 NC, 39 NC, 54 NC, 67 NC, 82 NC, 110 NC, 120 NC
part A text: BANK A
part B text: BANK B
part C text: BANK C
part D text: BANK D
part E text: BANK E
part F text: BANK F
part G text: BANK G
part H text: BANK H
part I text: BANK I
part J text: BANK J
part K text: BANK K
part L text: BANK L

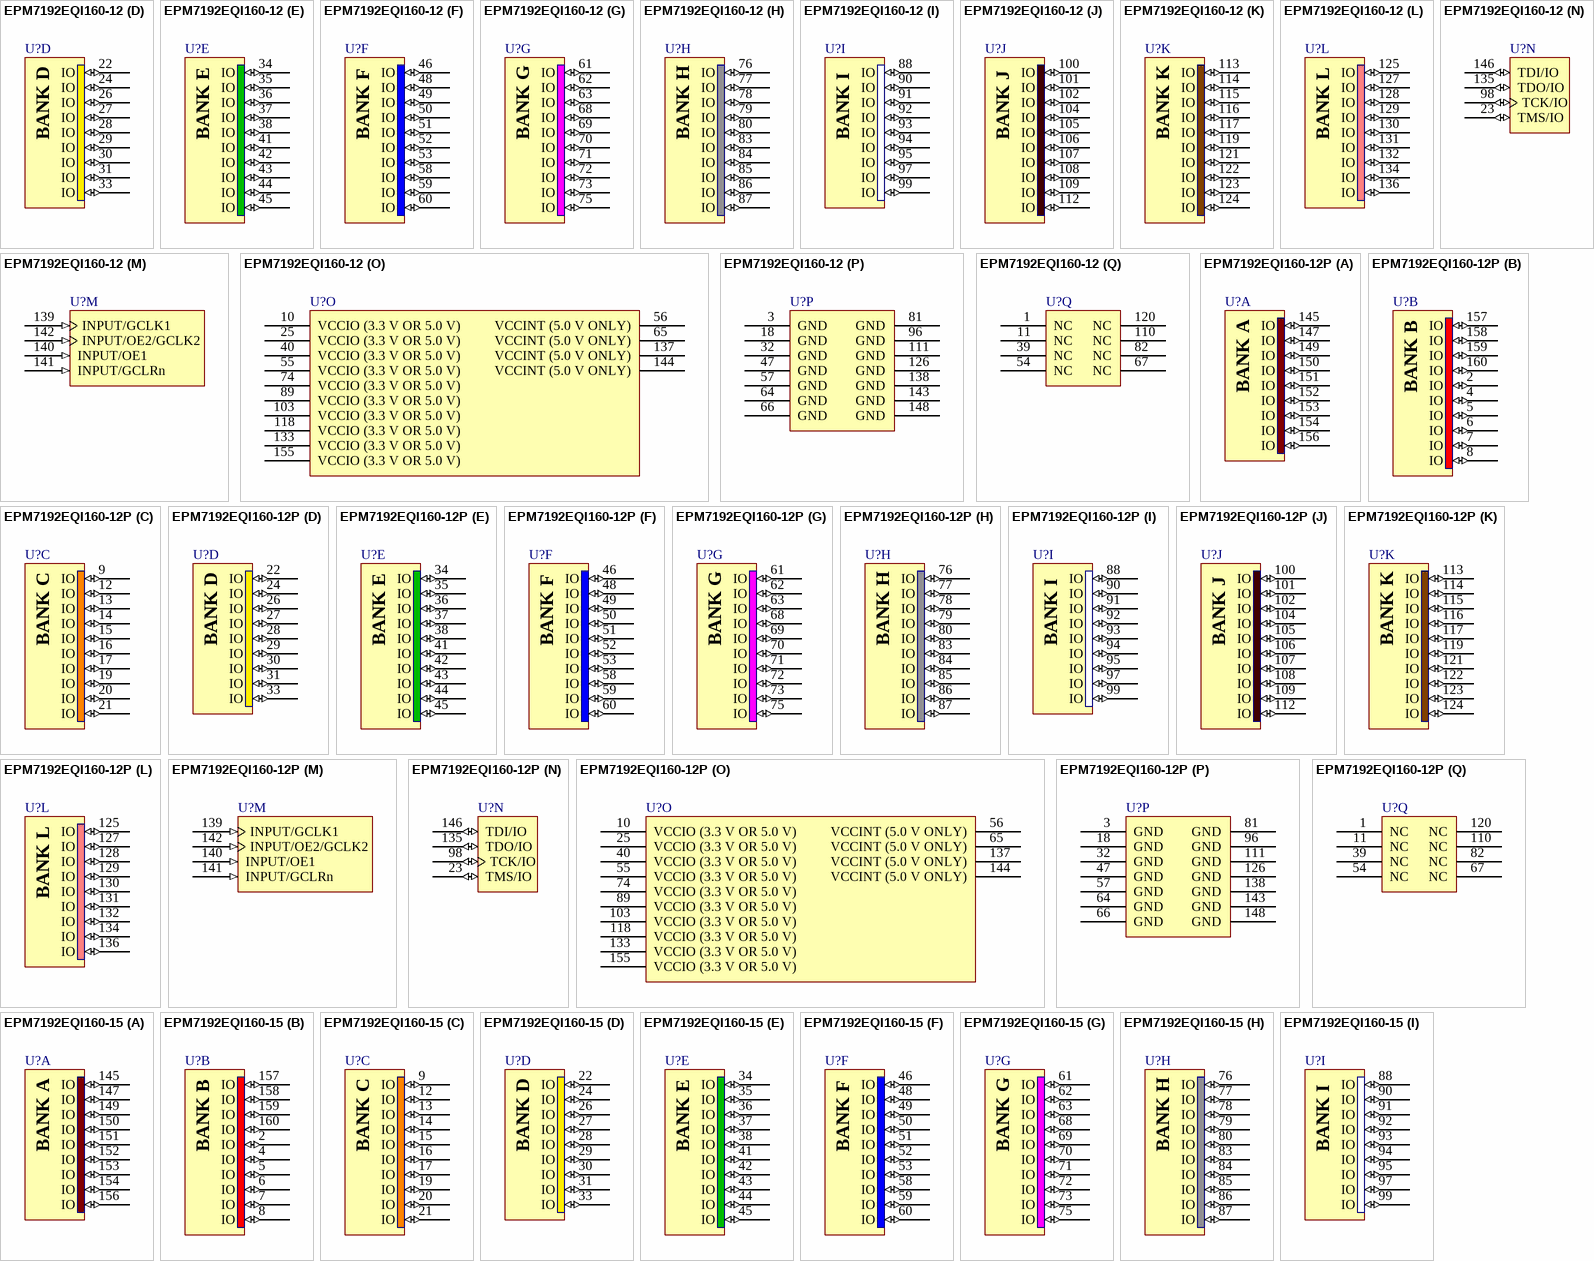
[diagram p82: symbols EPM7192EQI160-12 to EPM7192EQI160-15]

## EPM7192EQI160-12
designator U?
MAX 7000E 5V CPLD, 192 Macrocells, 160-Pin PQFP, Speed Grade 12, Industrial Grade; Published: 17-Sep-2003; LatestRevisionDate: 13-Apr-2006; LatestRevisionNote: IPC-7351 Footprint Added.; DatasheetVersion: ver6.7, Sep-2005; PackageVersion: ver14.3, Jul-2006; PackageReference: PQFP160; Publisher: Altium Limited; PackageDescription: 160-Pin Plastic Quad Flat Pack (PFQP160); Code_JEDEC: MS-022-DD-1; Code_IPC: QFP65P3120X3120-160; ComponentLink1Description: Manufacturer Link; ComponentLink1URL: http://www.altera.com/products/devices/max7k/m7k-index.html; ComponentLink2Description: Datasheet; ComponentLink2URL: http://www.altera.com/literature/ds/m7000.pdf; ComponentLink3Description: Packaging Specification; ComponentLink3URL: http://www.altera.com/literature/ds/dspkg.pdf
footprint PQFP160_N (QFP, 160-Leads, Body 28x28mm, Pitch 0.65mm, IPC Medium Density)
footprint PQFP160_L (QFP, 160-Leads, Body 28x28mm, Pitch 0.65mm, IPC High Density)
footprint PQFP160_M (QFP, 160-Leads, Body 28x28mm, Pitch 0.65mm, IPC Low Density)
3D model EPM7192E-PQFP160 (160-Pin Plastic Quad Flat Pack (PFQP160))
signal-integrity model 7k (MAX 7000S)
part A pins: 145 IO (io), 147 IO (io), 149 IO (io), 150 IO (io), 151 IO (io), 152 IO (io), 153 IO (io), 154 IO (io), 156 IO (io)
part B pins: 2 IO (io), 4 IO (io), 5 IO (io), 6 IO (io), 7 IO (io), 8 IO (io), 157 IO (io), 158 IO (io), 159 IO (io), 160 IO (io)
part C pins: 9 IO (io), 12 IO (io), 13 IO (io), 14 IO (io), 15 IO (io), 16 IO (io), 17 IO (io), 19 IO (io), 20 IO (io), 21 IO (io)
part D pins: 22 IO (io), 24 IO (io), 26 IO (io), 27 IO (io), 28 IO (io), 29 IO (io), 30 IO (io), 31 IO (io), 33 IO (io)
part E pins: 34 IO (io), 35 IO (io), 36 IO (io), 37 IO (io), 38 IO (io), 41 IO (io), 42 IO (io), 43 IO (io), 44 IO (io), 45 IO (io)
part F pins: 46 IO (io), 48 IO (io), 49 IO (io), 50 IO (io), 51 IO (io), 52 IO (io), 53 IO (io), 58 IO (io), 59 IO (io), 60 IO (io)
part G pins: 61 IO (io), 62 IO (io), 63 IO (io), 68 IO (io), 69 IO (io), 70 IO (io), 71 IO (io), 72 IO (io), 73 IO (io), 75 IO (io)
part H pins: 76 IO (io), 77 IO (io), 78 IO (io), 79 IO (io), 80 IO (io), 83 IO (io), 84 IO (io), 85 IO (io), 86 IO (io), 87 IO (io)
part I pins: 88 IO (io), 90 IO (io), 91 IO (io), 92 IO (io), 93 IO (io), 94 IO (io), 95 IO (io), 97 IO (io), 99 IO (io)
part J pins: 100 IO (io), 101 IO (io), 102 IO (io), 104 IO (io), 105 IO (io), 106 IO (io), 107 IO (io), 108 IO (io), 109 IO (io), 112 IO (io)
part K pins: 113 IO (io), 114 IO (io), 115 IO (io), 116 IO (io), 117 IO (io), 119 IO (io), 121 IO (io), 122 IO (io), 123 IO (io), 124 IO (io)
part L pins: 125 IO (io), 127 IO (io), 128 IO (io), 129 IO (io), 130 IO (io), 131 IO (io), 132 IO (io), 134 IO (io), 136 IO (io)
part M pins: 139 INPUT/GCLK1 (in), 140 INPUT/OE1 (in), 141 INPUT/GCLRn (in), 142 INPUT/OE2/GCLK2 (in)
part N pins: 23 TMS/IO (io), 98 TCK/IO (io), 135 TDO/IO (io), 146 TDI/IO (io)
part O pins: 10 VCCIO (3.3 V OR 5.0 V) (power), 25 VCCIO (3.3 V OR 5.0 V) (power), 40 VCCIO (3.3 V OR 5.0 V) (power), 55 VCCIO (3.3 V OR 5.0 V) (power), 56 VCCINT (5.0 V ONLY) (power), 65 VCCINT (5.0 V ONLY) (power), 74 VCCIO (3.3 V OR 5.0 V) (power), 89 VCCIO (3.3 V OR 5.0 V) (power), 103 VCCIO (3.3 V OR 5.0 V) (power), 118 VCCIO (3.3 V OR 5.0 V) (power), 133 VCCIO (3.3 V OR 5.0 V) (power), 137 VCCINT (5.0 V ONLY) (power), 144 VCCINT (5.0 V ONLY) (power), 155 VCCIO (3.3 V OR 5.0 V) (power)
part P pins: 3 GND (power), 18 GND (power), 32 GND (power), 47 GND (power), 57 GND (power), 64 GND (power), 66 GND (power), 81 GND (power), 96 GND (power), 111 GND (power), 126 GND (power), 138 GND (power), 143 GND (power), 148 GND (power)
part Q pins: 1 NC, 11 NC, 39 NC, 54 NC, 67 NC, 82 NC, 110 NC, 120 NC
part A text: BANK A
part B text: BANK B
part C text: BANK C
part D text: BANK D
part E text: BANK E
part F text: BANK F
part G text: BANK G
part H text: BANK H
part I text: BANK I
part J text: BANK J
part K text: BANK K
part L text: BANK L

## EPM7192EQI160-12P
designator U?
MAX 7000E 5V CPLD, 192 Macrocells, 160-Pin PQFP, Speed Grade 12P, Industrial Grade; Published: 17-Sep-2003; LatestRevisionDate: 13-Apr-2006; LatestRevisionNote: IPC-7351 Footprint Added.; DatasheetVersion: ver6.7, Sep-2005; PackageVersion: ver14.3, Jul-2006; PackageReference: PQFP160; Publisher: Altium Limited; PackageDescription: 160-Pin Plastic Quad Flat Pack (PFQP160); Code_JEDEC: MS-022-DD-1; Code_IPC: QFP65P3120X3120-160; ComponentLink1Description: Manufacturer Link; ComponentLink1URL: http://www.altera.com/products/devices/max7k/m7k-index.html; ComponentLink2Description: Datasheet; ComponentLink2URL: http://www.altera.com/literature/ds/m7000.pdf; ComponentLink3Description: Packaging Specification; ComponentLink3URL: http://www.altera.com/literature/ds/dspkg.pdf
footprint PQFP160_N (QFP, 160-Leads, Body 28x28mm, Pitch 0.65mm, IPC Medium Density)
footprint PQFP160_L (QFP, 160-Leads, Body 28x28mm, Pitch 0.65mm, IPC High Density)
footprint PQFP160_M (QFP, 160-Leads, Body 28x28mm, Pitch 0.65mm, IPC Low Density)
3D model EPM7192E-PQFP160 (160-Pin Plastic Quad Flat Pack (PFQP160))
signal-integrity model 7k (MAX 7000S)
part A pins: 145 IO (io), 147 IO (io), 149 IO (io), 150 IO (io), 151 IO (io), 152 IO (io), 153 IO (io), 154 IO (io), 156 IO (io)
part B pins: 2 IO (io), 4 IO (io), 5 IO (io), 6 IO (io), 7 IO (io), 8 IO (io), 157 IO (io), 158 IO (io), 159 IO (io), 160 IO (io)
part C pins: 9 IO (io), 12 IO (io), 13 IO (io), 14 IO (io), 15 IO (io), 16 IO (io), 17 IO (io), 19 IO (io), 20 IO (io), 21 IO (io)
part D pins: 22 IO (io), 24 IO (io), 26 IO (io), 27 IO (io), 28 IO (io), 29 IO (io), 30 IO (io), 31 IO (io), 33 IO (io)
part E pins: 34 IO (io), 35 IO (io), 36 IO (io), 37 IO (io), 38 IO (io), 41 IO (io), 42 IO (io), 43 IO (io), 44 IO (io), 45 IO (io)
part F pins: 46 IO (io), 48 IO (io), 49 IO (io), 50 IO (io), 51 IO (io), 52 IO (io), 53 IO (io), 58 IO (io), 59 IO (io), 60 IO (io)
part G pins: 61 IO (io), 62 IO (io), 63 IO (io), 68 IO (io), 69 IO (io), 70 IO (io), 71 IO (io), 72 IO (io), 73 IO (io), 75 IO (io)
part H pins: 76 IO (io), 77 IO (io), 78 IO (io), 79 IO (io), 80 IO (io), 83 IO (io), 84 IO (io), 85 IO (io), 86 IO (io), 87 IO (io)
part I pins: 88 IO (io), 90 IO (io), 91 IO (io), 92 IO (io), 93 IO (io), 94 IO (io), 95 IO (io), 97 IO (io), 99 IO (io)
part J pins: 100 IO (io), 101 IO (io), 102 IO (io), 104 IO (io), 105 IO (io), 106 IO (io), 107 IO (io), 108 IO (io), 109 IO (io), 112 IO (io)
part K pins: 113 IO (io), 114 IO (io), 115 IO (io), 116 IO (io), 117 IO (io), 119 IO (io), 121 IO (io), 122 IO (io), 123 IO (io), 124 IO (io)
part L pins: 125 IO (io), 127 IO (io), 128 IO (io), 129 IO (io), 130 IO (io), 131 IO (io), 132 IO (io), 134 IO (io), 136 IO (io)
part M pins: 139 INPUT/GCLK1 (in), 140 INPUT/OE1 (in), 141 INPUT/GCLRn (in), 142 INPUT/OE2/GCLK2 (in)
part N pins: 23 TMS/IO (io), 98 TCK/IO (io), 135 TDO/IO (io), 146 TDI/IO (io)
part O pins: 10 VCCIO (3.3 V OR 5.0 V) (power), 25 VCCIO (3.3 V OR 5.0 V) (power), 40 VCCIO (3.3 V OR 5.0 V) (power), 55 VCCIO (3.3 V OR 5.0 V) (power), 56 VCCINT (5.0 V ONLY) (power), 65 VCCINT (5.0 V ONLY) (power), 74 VCCIO (3.3 V OR 5.0 V) (power), 89 VCCIO (3.3 V OR 5.0 V) (power), 103 VCCIO (3.3 V OR 5.0 V) (power), 118 VCCIO (3.3 V OR 5.0 V) (power), 133 VCCIO (3.3 V OR 5.0 V) (power), 137 VCCINT (5.0 V ONLY) (power), 144 VCCINT (5.0 V ONLY) (power), 155 VCCIO (3.3 V OR 5.0 V) (power)
part P pins: 3 GND (power), 18 GND (power), 32 GND (power), 47 GND (power), 57 GND (power), 64 GND (power), 66 GND (power), 81 GND (power), 96 GND (power), 111 GND (power), 126 GND (power), 138 GND (power), 143 GND (power), 148 GND (power)
part Q pins: 1 NC, 11 NC, 39 NC, 54 NC, 67 NC, 82 NC, 110 NC, 120 NC
part A text: BANK A
part B text: BANK B
part C text: BANK C
part D text: BANK D
part E text: BANK E
part F text: BANK F
part G text: BANK G
part H text: BANK H
part I text: BANK I
part J text: BANK J
part K text: BANK K
part L text: BANK L

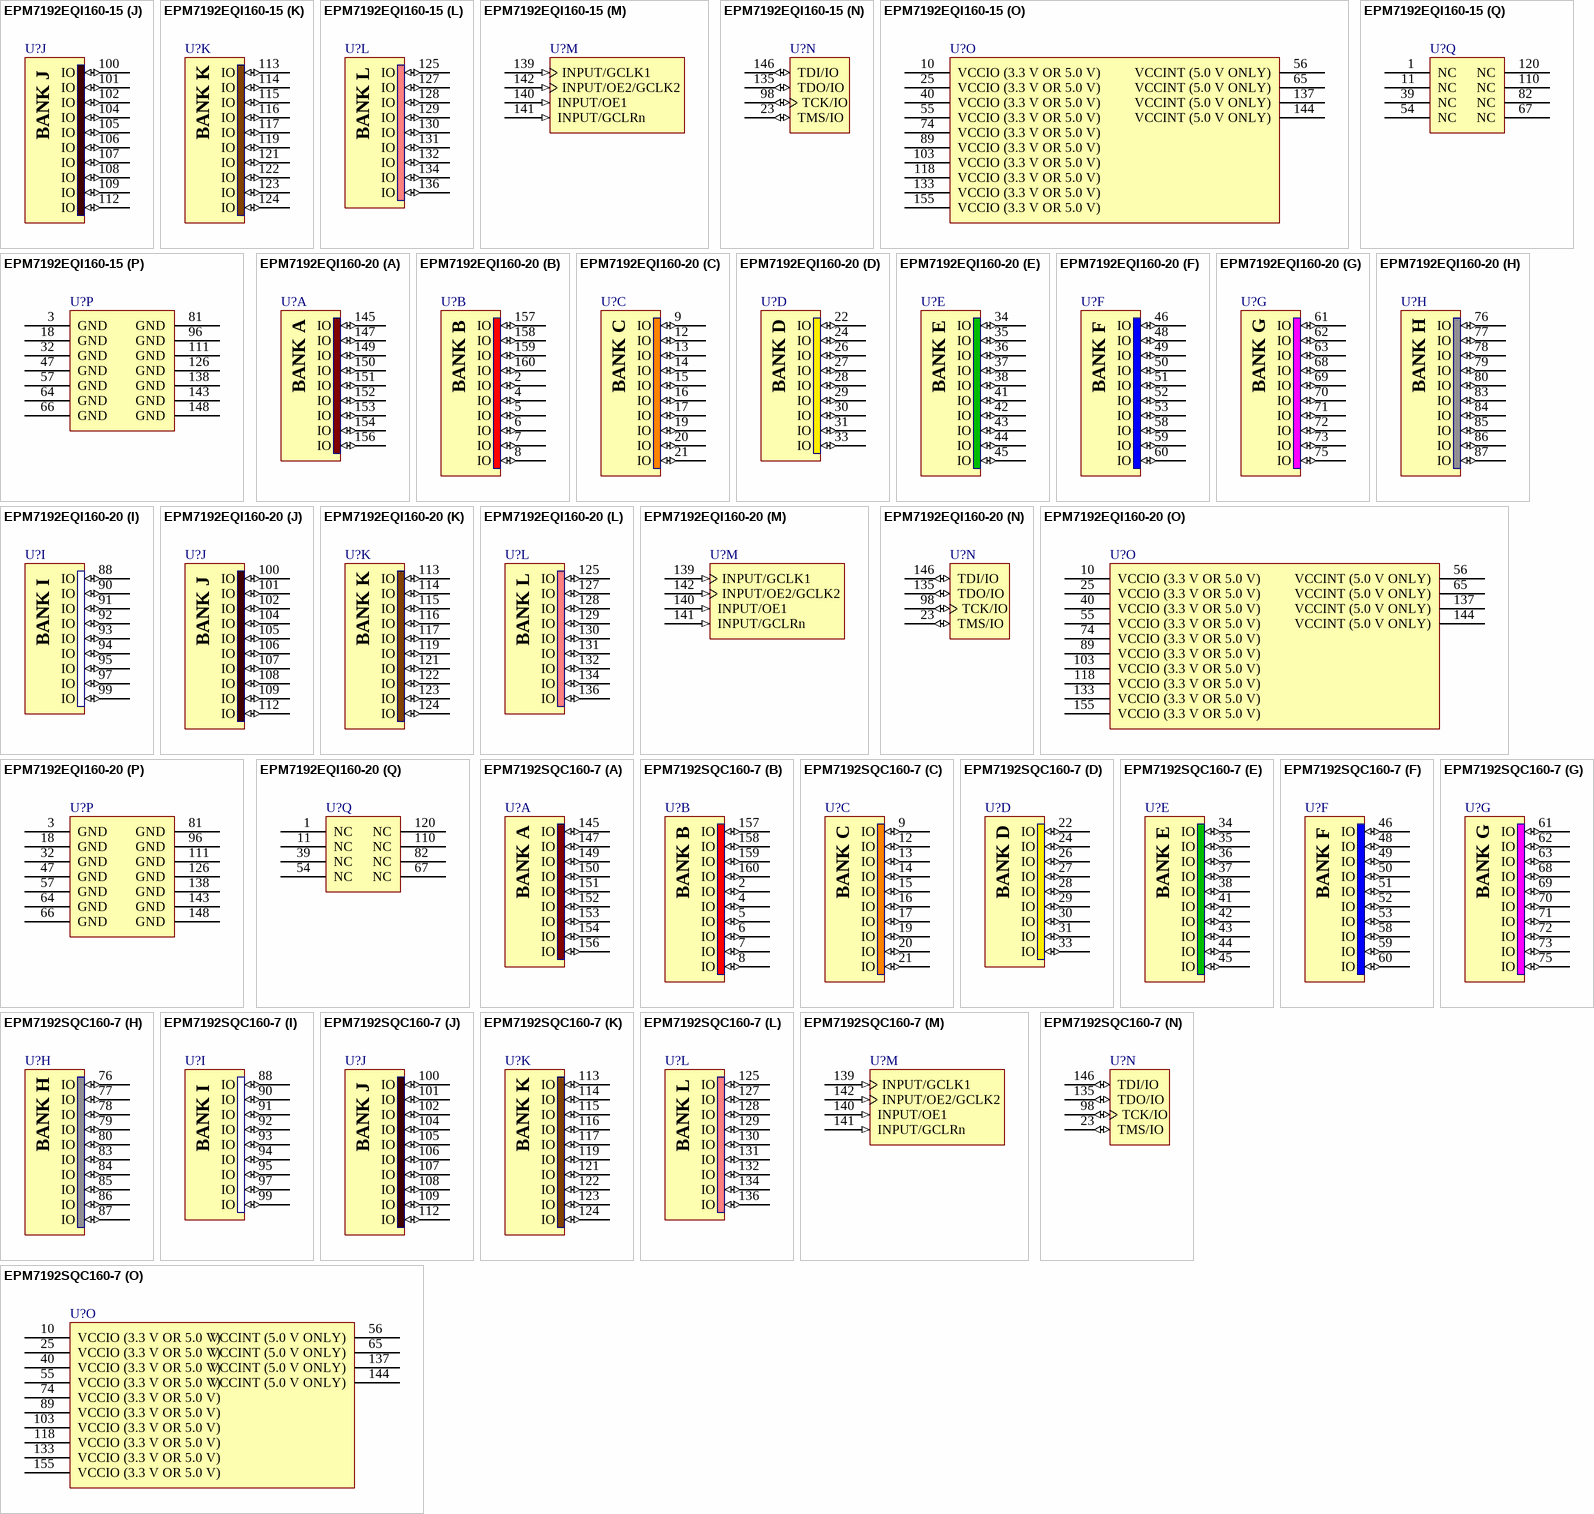
[diagram p83: symbols EPM7192EQI160-15 to EPM7192SQC160-7]

## EPM7192EQI160-15
designator U?
MAX 7000E 5V CPLD, 192 Macrocells, 160-Pin PQFP, Speed Grade 15, Industrial Grade; Published: 24-Nov-2000; LatestRevisionDate: 13-Apr-2006; LatestRevisionNote: IPC-7351 Footprint Added.; DatasheetVersion: ver6.7, Sep-2005; PackageVersion: ver14.3, Jul-2006; PackageReference: PQFP160; Publisher: Altium Limited; PackageDescription: 160-Pin Plastic Quad Flat Pack (PFQP160); Code_JEDEC: MS-022-DD-1; Code_IPC: QFP65P3120X3120-160; ComponentLink1Description: Manufacturer Link; ComponentLink1URL: http://www.altera.com/products/devices/max7k/m7k-index.html; ComponentLink2Description: Datasheet; ComponentLink2URL: http://www.altera.com/literature/ds/m7000.pdf; ComponentLink3Description: Packaging Specification; ComponentLink3URL: http://www.altera.com/literature/ds/dspkg.pdf
footprint PQFP160_N (QFP, 160-Leads, Body 28x28mm, Pitch 0.65mm, IPC Medium Density)
footprint PQFP160_L (QFP, 160-Leads, Body 28x28mm, Pitch 0.65mm, IPC High Density)
footprint PQFP160_M (QFP, 160-Leads, Body 28x28mm, Pitch 0.65mm, IPC Low Density)
3D model EPM7192E-PQFP160 (160-Pin Plastic Quad Flat Pack (PFQP160))
signal-integrity model 7k (MAX 7000S)
part A pins: 145 IO (io), 147 IO (io), 149 IO (io), 150 IO (io), 151 IO (io), 152 IO (io), 153 IO (io), 154 IO (io), 156 IO (io)
part B pins: 2 IO (io), 4 IO (io), 5 IO (io), 6 IO (io), 7 IO (io), 8 IO (io), 157 IO (io), 158 IO (io), 159 IO (io), 160 IO (io)
part C pins: 9 IO (io), 12 IO (io), 13 IO (io), 14 IO (io), 15 IO (io), 16 IO (io), 17 IO (io), 19 IO (io), 20 IO (io), 21 IO (io)
part D pins: 22 IO (io), 24 IO (io), 26 IO (io), 27 IO (io), 28 IO (io), 29 IO (io), 30 IO (io), 31 IO (io), 33 IO (io)
part E pins: 34 IO (io), 35 IO (io), 36 IO (io), 37 IO (io), 38 IO (io), 41 IO (io), 42 IO (io), 43 IO (io), 44 IO (io), 45 IO (io)
part F pins: 46 IO (io), 48 IO (io), 49 IO (io), 50 IO (io), 51 IO (io), 52 IO (io), 53 IO (io), 58 IO (io), 59 IO (io), 60 IO (io)
part G pins: 61 IO (io), 62 IO (io), 63 IO (io), 68 IO (io), 69 IO (io), 70 IO (io), 71 IO (io), 72 IO (io), 73 IO (io), 75 IO (io)
part H pins: 76 IO (io), 77 IO (io), 78 IO (io), 79 IO (io), 80 IO (io), 83 IO (io), 84 IO (io), 85 IO (io), 86 IO (io), 87 IO (io)
part I pins: 88 IO (io), 90 IO (io), 91 IO (io), 92 IO (io), 93 IO (io), 94 IO (io), 95 IO (io), 97 IO (io), 99 IO (io)
part J pins: 100 IO (io), 101 IO (io), 102 IO (io), 104 IO (io), 105 IO (io), 106 IO (io), 107 IO (io), 108 IO (io), 109 IO (io), 112 IO (io)
part K pins: 113 IO (io), 114 IO (io), 115 IO (io), 116 IO (io), 117 IO (io), 119 IO (io), 121 IO (io), 122 IO (io), 123 IO (io), 124 IO (io)
part L pins: 125 IO (io), 127 IO (io), 128 IO (io), 129 IO (io), 130 IO (io), 131 IO (io), 132 IO (io), 134 IO (io), 136 IO (io)
part M pins: 139 INPUT/GCLK1 (in), 140 INPUT/OE1 (in), 141 INPUT/GCLRn (in), 142 INPUT/OE2/GCLK2 (in)
part N pins: 23 TMS/IO (io), 98 TCK/IO (io), 135 TDO/IO (io), 146 TDI/IO (io)
part O pins: 10 VCCIO (3.3 V OR 5.0 V) (power), 25 VCCIO (3.3 V OR 5.0 V) (power), 40 VCCIO (3.3 V OR 5.0 V) (power), 55 VCCIO (3.3 V OR 5.0 V) (power), 56 VCCINT (5.0 V ONLY) (power), 65 VCCINT (5.0 V ONLY) (power), 74 VCCIO (3.3 V OR 5.0 V) (power), 89 VCCIO (3.3 V OR 5.0 V) (power), 103 VCCIO (3.3 V OR 5.0 V) (power), 118 VCCIO (3.3 V OR 5.0 V) (power), 133 VCCIO (3.3 V OR 5.0 V) (power), 137 VCCINT (5.0 V ONLY) (power), 144 VCCINT (5.0 V ONLY) (power), 155 VCCIO (3.3 V OR 5.0 V) (power)
part P pins: 3 GND (power), 18 GND (power), 32 GND (power), 47 GND (power), 57 GND (power), 64 GND (power), 66 GND (power), 81 GND (power), 96 GND (power), 111 GND (power), 126 GND (power), 138 GND (power), 143 GND (power), 148 GND (power)
part Q pins: 1 NC, 11 NC, 39 NC, 54 NC, 67 NC, 82 NC, 110 NC, 120 NC
part A text: BANK A
part B text: BANK B
part C text: BANK C
part D text: BANK D
part E text: BANK E
part F text: BANK F
part G text: BANK G
part H text: BANK H
part I text: BANK I
part J text: BANK J
part K text: BANK K
part L text: BANK L

## EPM7192EQI160-20
designator U?
MAX 7000E 5V CPLD, 192 Macrocells, 160-Pin PQFP, Speed Grade 20, Industrial Grade; Published: 24-Nov-2000; LatestRevisionDate: 13-Apr-2006; LatestRevisionNote: IPC-7351 Footprint Added.; DatasheetVersion: ver6.7, Sep-2005; PackageVersion: ver14.3, Jul-2006; PackageReference: PQFP160; Publisher: Altium Limited; PackageDescription: 160-Pin Plastic Quad Flat Pack (PFQP160); Code_JEDEC: MS-022-DD-1; Code_IPC: QFP65P3120X3120-160; ComponentLink1Description: Manufacturer Link; ComponentLink1URL: http://www.altera.com/products/devices/max7k/m7k-index.html; ComponentLink2Description: Datasheet; ComponentLink2URL: http://www.altera.com/literature/ds/m7000.pdf; ComponentLink3Description: Packaging Specification; ComponentLink3URL: http://www.altera.com/literature/ds/dspkg.pdf
footprint PQFP160_N (QFP, 160-Leads, Body 28x28mm, Pitch 0.65mm, IPC Medium Density)
footprint PQFP160_L (QFP, 160-Leads, Body 28x28mm, Pitch 0.65mm, IPC High Density)
footprint PQFP160_M (QFP, 160-Leads, Body 28x28mm, Pitch 0.65mm, IPC Low Density)
3D model EPM7192E-PQFP160 (160-Pin Plastic Quad Flat Pack (PFQP160))
signal-integrity model 7k (MAX 7000S)
part A pins: 145 IO (io), 147 IO (io), 149 IO (io), 150 IO (io), 151 IO (io), 152 IO (io), 153 IO (io), 154 IO (io), 156 IO (io)
part B pins: 2 IO (io), 4 IO (io), 5 IO (io), 6 IO (io), 7 IO (io), 8 IO (io), 157 IO (io), 158 IO (io), 159 IO (io), 160 IO (io)
part C pins: 9 IO (io), 12 IO (io), 13 IO (io), 14 IO (io), 15 IO (io), 16 IO (io), 17 IO (io), 19 IO (io), 20 IO (io), 21 IO (io)
part D pins: 22 IO (io), 24 IO (io), 26 IO (io), 27 IO (io), 28 IO (io), 29 IO (io), 30 IO (io), 31 IO (io), 33 IO (io)
part E pins: 34 IO (io), 35 IO (io), 36 IO (io), 37 IO (io), 38 IO (io), 41 IO (io), 42 IO (io), 43 IO (io), 44 IO (io), 45 IO (io)
part F pins: 46 IO (io), 48 IO (io), 49 IO (io), 50 IO (io), 51 IO (io), 52 IO (io), 53 IO (io), 58 IO (io), 59 IO (io), 60 IO (io)
part G pins: 61 IO (io), 62 IO (io), 63 IO (io), 68 IO (io), 69 IO (io), 70 IO (io), 71 IO (io), 72 IO (io), 73 IO (io), 75 IO (io)
part H pins: 76 IO (io), 77 IO (io), 78 IO (io), 79 IO (io), 80 IO (io), 83 IO (io), 84 IO (io), 85 IO (io), 86 IO (io), 87 IO (io)
part I pins: 88 IO (io), 90 IO (io), 91 IO (io), 92 IO (io), 93 IO (io), 94 IO (io), 95 IO (io), 97 IO (io), 99 IO (io)
part J pins: 100 IO (io), 101 IO (io), 102 IO (io), 104 IO (io), 105 IO (io), 106 IO (io), 107 IO (io), 108 IO (io), 109 IO (io), 112 IO (io)
part K pins: 113 IO (io), 114 IO (io), 115 IO (io), 116 IO (io), 117 IO (io), 119 IO (io), 121 IO (io), 122 IO (io), 123 IO (io), 124 IO (io)
part L pins: 125 IO (io), 127 IO (io), 128 IO (io), 129 IO (io), 130 IO (io), 131 IO (io), 132 IO (io), 134 IO (io), 136 IO (io)
part M pins: 139 INPUT/GCLK1 (in), 140 INPUT/OE1 (in), 141 INPUT/GCLRn (in), 142 INPUT/OE2/GCLK2 (in)
part N pins: 23 TMS/IO (io), 98 TCK/IO (io), 135 TDO/IO (io), 146 TDI/IO (io)
part O pins: 10 VCCIO (3.3 V OR 5.0 V) (power), 25 VCCIO (3.3 V OR 5.0 V) (power), 40 VCCIO (3.3 V OR 5.0 V) (power), 55 VCCIO (3.3 V OR 5.0 V) (power), 56 VCCINT (5.0 V ONLY) (power), 65 VCCINT (5.0 V ONLY) (power), 74 VCCIO (3.3 V OR 5.0 V) (power), 89 VCCIO (3.3 V OR 5.0 V) (power), 103 VCCIO (3.3 V OR 5.0 V) (power), 118 VCCIO (3.3 V OR 5.0 V) (power), 133 VCCIO (3.3 V OR 5.0 V) (power), 137 VCCINT (5.0 V ONLY) (power), 144 VCCINT (5.0 V ONLY) (power), 155 VCCIO (3.3 V OR 5.0 V) (power)
part P pins: 3 GND (power), 18 GND (power), 32 GND (power), 47 GND (power), 57 GND (power), 64 GND (power), 66 GND (power), 81 GND (power), 96 GND (power), 111 GND (power), 126 GND (power), 138 GND (power), 143 GND (power), 148 GND (power)
part Q pins: 1 NC, 11 NC, 39 NC, 54 NC, 67 NC, 82 NC, 110 NC, 120 NC
part A text: BANK A
part B text: BANK B
part C text: BANK C
part D text: BANK D
part E text: BANK E
part F text: BANK F
part G text: BANK G
part H text: BANK H
part I text: BANK I
part J text: BANK J
part K text: BANK K
part L text: BANK L

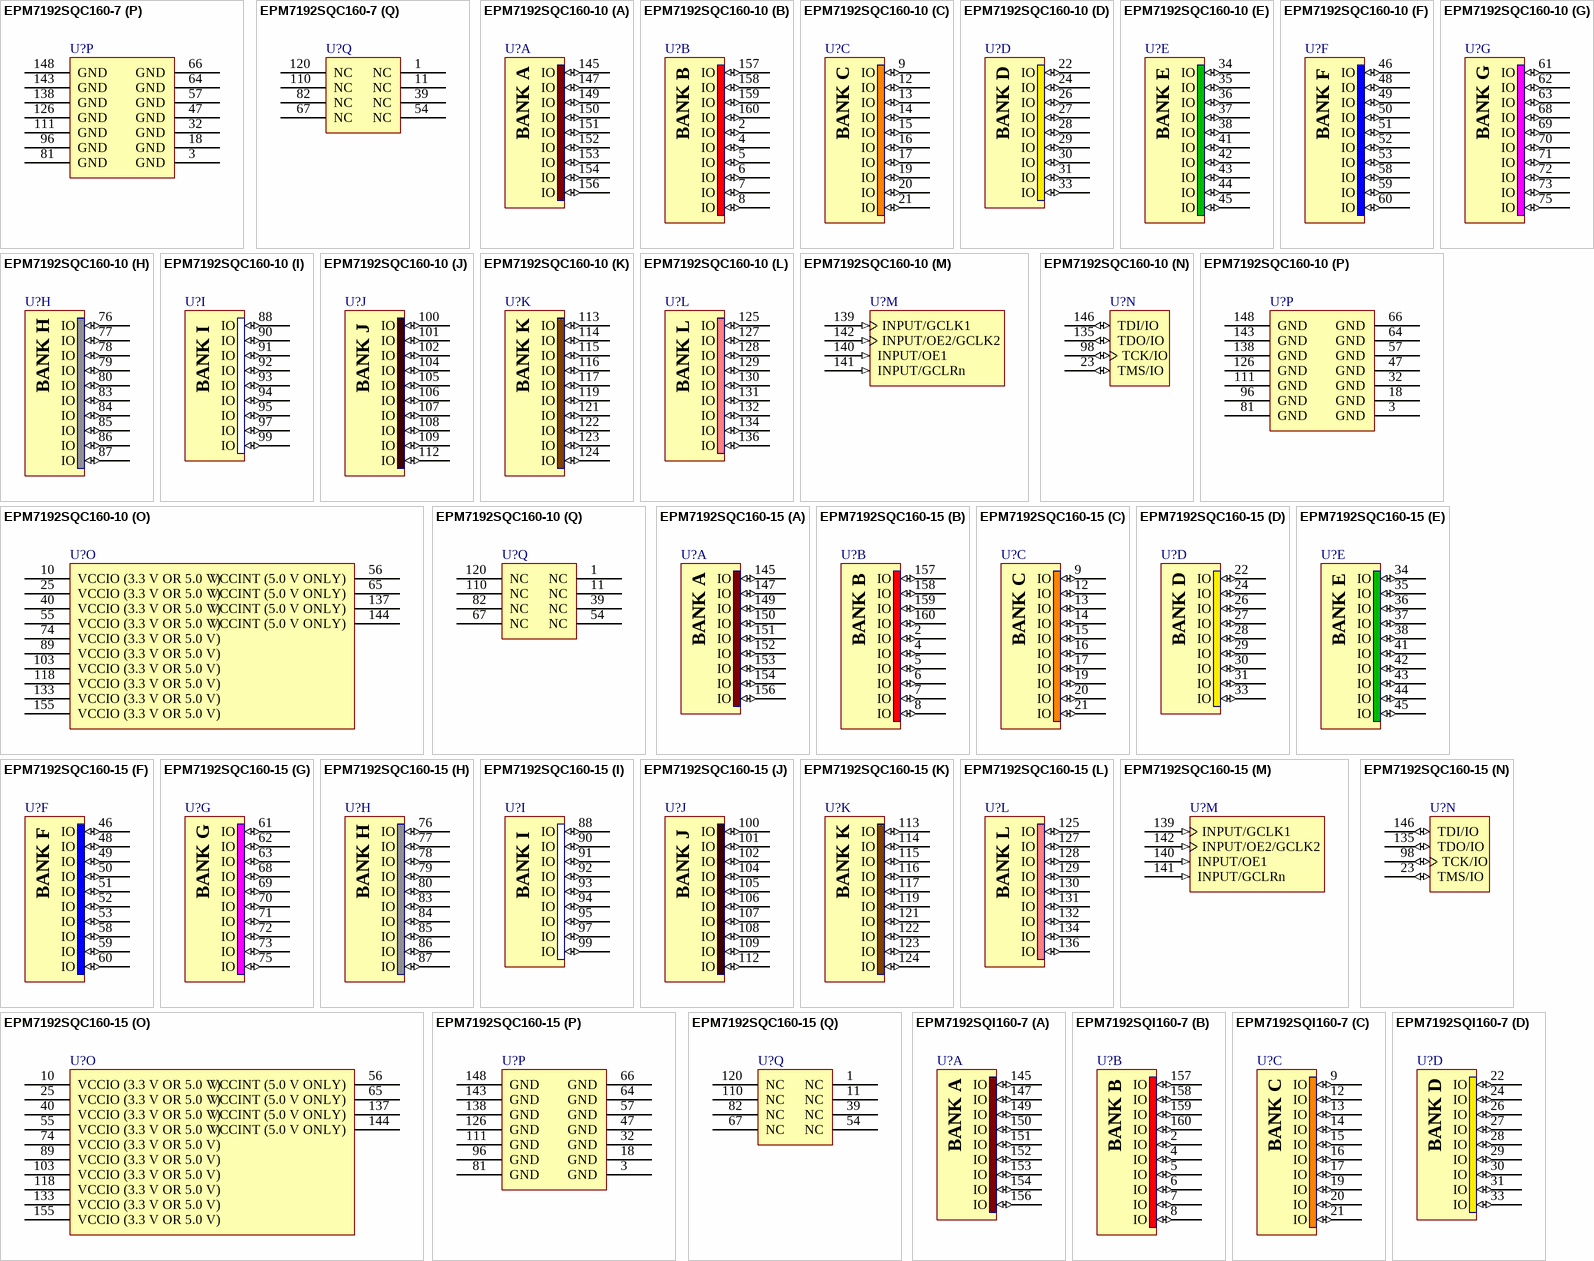
[diagram p84: symbols EPM7192SQC160-7 to EPM7192SQI160-7]

## EPM7192SQC160-7
designator U?
MAX 7000S 5V In-System Programmable CPLD, 192 Macrocells, 160-Pin PQFP, Speed Grade 7, Commercial Grade; Published: 24-Nov-2000; LatestRevisionDate: 13-Apr-2006; LatestRevisionNote: IPC-7351 Footprint Added.; DatasheetVersion: ver6.7, Sep-2005; PackageVersion: ver14.3, Jul-2006; PackageReference: PQFP160; Publisher: Altium Limited; PackageDescription: 160-Pin Plastic Quad Flat Pack (PFQP160); Supplier 1: Digi-Key; Supplier Part Number 1: 544-2342-ND; Code_JEDEC: MS-022-DD-1; Code_IPC: QFP65P3120X3120-160; ComponentLink1Description: Manufacturer Link; ComponentLink1URL: http://www.altera.com/products/devices/max7k/m7k-index.html; ComponentLink2Description: Datasheet; ComponentLink2URL: http://www.altera.com/literature/ds/m7000.pdf; ComponentLink3Description: Packaging Specification; ComponentLink3URL: http://www.altera.com/literature/ds/dspkg.pdf
footprint PQFP160_N (QFP, 160-Leads, Body 28x28mm, Pitch 0.65mm, IPC Medium Density)
footprint PQFP160_L (QFP, 160-Leads, Body 28x28mm, Pitch 0.65mm, IPC High Density)
footprint PQFP160_M (QFP, 160-Leads, Body 28x28mm, Pitch 0.65mm, IPC Low Density)
3D model EPM7192S-PQFP160 (160-Pin Plastic Quad Flat Pack (PFQP160))
signal-integrity model 7k (MAX 7000S)
part A pins: 145 IO (io), 147 IO (io), 149 IO (io), 150 IO (io), 151 IO (io), 152 IO (io), 153 IO (io), 154 IO (io), 156 IO (io)
part B pins: 2 IO (io), 4 IO (io), 5 IO (io), 6 IO (io), 7 IO (io), 8 IO (io), 157 IO (io), 158 IO (io), 159 IO (io), 160 IO (io)
part C pins: 9 IO (io), 12 IO (io), 13 IO (io), 14 IO (io), 15 IO (io), 16 IO (io), 17 IO (io), 19 IO (io), 20 IO (io), 21 IO (io)
part D pins: 22 IO (io), 24 IO (io), 26 IO (io), 27 IO (io), 28 IO (io), 29 IO (io), 30 IO (io), 31 IO (io), 33 IO (io)
part E pins: 34 IO (io), 35 IO (io), 36 IO (io), 37 IO (io), 38 IO (io), 41 IO (io), 42 IO (io), 43 IO (io), 44 IO (io), 45 IO (io)
part F pins: 46 IO (io), 48 IO (io), 49 IO (io), 50 IO (io), 51 IO (io), 52 IO (io), 53 IO (io), 58 IO (io), 59 IO (io), 60 IO (io)
part G pins: 61 IO (io), 62 IO (io), 63 IO (io), 68 IO (io), 69 IO (io), 70 IO (io), 71 IO (io), 72 IO (io), 73 IO (io), 75 IO (io)
part H pins: 76 IO (io), 77 IO (io), 78 IO (io), 79 IO (io), 80 IO (io), 83 IO (io), 84 IO (io), 85 IO (io), 86 IO (io), 87 IO (io)
part I pins: 88 IO (io), 90 IO (io), 91 IO (io), 92 IO (io), 93 IO (io), 94 IO (io), 95 IO (io), 97 IO (io), 99 IO (io)
part J pins: 100 IO (io), 101 IO (io), 102 IO (io), 104 IO (io), 105 IO (io), 106 IO (io), 107 IO (io), 108 IO (io), 109 IO (io), 112 IO (io)
part K pins: 113 IO (io), 114 IO (io), 115 IO (io), 116 IO (io), 117 IO (io), 119 IO (io), 121 IO (io), 122 IO (io), 123 IO (io), 124 IO (io)
part L pins: 125 IO (io), 127 IO (io), 128 IO (io), 129 IO (io), 130 IO (io), 131 IO (io), 132 IO (io), 134 IO (io), 136 IO (io)
part M pins: 139 INPUT/GCLK1 (in), 140 INPUT/OE1 (in), 141 INPUT/GCLRn (in), 142 INPUT/OE2/GCLK2 (in)
part N pins: 23 TMS/IO (io), 98 TCK/IO (io), 135 TDO/IO (io), 146 TDI/IO (io)
part O pins: 10 VCCIO (3.3 V OR 5.0 V) (power), 25 VCCIO (3.3 V OR 5.0 V) (power), 40 VCCIO (3.3 V OR 5.0 V) (power), 55 VCCIO (3.3 V OR 5.0 V) (power), 56 VCCINT (5.0 V ONLY) (power), 65 VCCINT (5.0 V ONLY) (power), 74 VCCIO (3.3 V OR 5.0 V) (power), 89 VCCIO (3.3 V OR 5.0 V) (power), 103 VCCIO (3.3 V OR 5.0 V) (power), 118 VCCIO (3.3 V OR 5.0 V) (power), 133 VCCIO (3.3 V OR 5.0 V) (power), 137 VCCINT (5.0 V ONLY) (power), 144 VCCINT (5.0 V ONLY) (power), 155 VCCIO (3.3 V OR 5.0 V) (power)
part P pins: 3 GND (power), 18 GND (power), 32 GND (power), 47 GND (power), 57 GND (power), 64 GND (power), 66 GND (power), 81 GND (power), 96 GND (power), 111 GND (power), 126 GND (power), 138 GND (power), 143 GND (power), 148 GND (power)
part Q pins: 1 NC, 11 NC, 39 NC, 54 NC, 67 NC, 82 NC, 110 NC, 120 NC
part A text: BANK A
part B text: BANK B
part C text: BANK C
part D text: BANK D
part E text: BANK E
part F text: BANK F
part G text: BANK G
part H text: BANK H
part I text: BANK I
part J text: BANK J
part K text: BANK K
part L text: BANK L

## EPM7192SQC160-10
designator U?
MAX 7000S 5V In-System Programmable CPLD, 192 Macrocells, 160-Pin PQFP, Speed Grade 10, Commercial Grade; Published: 24-Nov-2000; LatestRevisionDate: 13-Apr-2006; LatestRevisionNote: IPC-7351 Footprint Added.; DatasheetVersion: ver6.7, Sep-2005; PackageVersion: ver14.3, Jul-2006; PackageReference: PQFP160; Publisher: Altium Limited; PackageDescription: 160-Pin Plastic Quad Flat Pack (PFQP160); Supplier 1: Digi-Key; Supplier Part Number 1: 544-1215-ND; Code_JEDEC: MS-022-DD-1; Code_IPC: QFP65P3120X3120-160; ComponentLink1Description: Manufacturer Link; ComponentLink1URL: http://www.altera.com/products/devices/max7k/m7k-index.html; ComponentLink2Description: Datasheet; ComponentLink2URL: http://www.altera.com/literature/ds/m7000.pdf; ComponentLink3Description: Packaging Specification; ComponentLink3URL: http://www.altera.com/literature/ds/dspkg.pdf
footprint PQFP160_N (QFP, 160-Leads, Body 28x28mm, Pitch 0.65mm, IPC Medium Density)
footprint PQFP160_L (QFP, 160-Leads, Body 28x28mm, Pitch 0.65mm, IPC High Density)
footprint PQFP160_M (QFP, 160-Leads, Body 28x28mm, Pitch 0.65mm, IPC Low Density)
3D model EPM7192S-PQFP160 (160-Pin Plastic Quad Flat Pack (PFQP160))
signal-integrity model 7k (MAX 7000S)
part A pins: 145 IO (io), 147 IO (io), 149 IO (io), 150 IO (io), 151 IO (io), 152 IO (io), 153 IO (io), 154 IO (io), 156 IO (io)
part B pins: 2 IO (io), 4 IO (io), 5 IO (io), 6 IO (io), 7 IO (io), 8 IO (io), 157 IO (io), 158 IO (io), 159 IO (io), 160 IO (io)
part C pins: 9 IO (io), 12 IO (io), 13 IO (io), 14 IO (io), 15 IO (io), 16 IO (io), 17 IO (io), 19 IO (io), 20 IO (io), 21 IO (io)
part D pins: 22 IO (io), 24 IO (io), 26 IO (io), 27 IO (io), 28 IO (io), 29 IO (io), 30 IO (io), 31 IO (io), 33 IO (io)
part E pins: 34 IO (io), 35 IO (io), 36 IO (io), 37 IO (io), 38 IO (io), 41 IO (io), 42 IO (io), 43 IO (io), 44 IO (io), 45 IO (io)
part F pins: 46 IO (io), 48 IO (io), 49 IO (io), 50 IO (io), 51 IO (io), 52 IO (io), 53 IO (io), 58 IO (io), 59 IO (io), 60 IO (io)
part G pins: 61 IO (io), 62 IO (io), 63 IO (io), 68 IO (io), 69 IO (io), 70 IO (io), 71 IO (io), 72 IO (io), 73 IO (io), 75 IO (io)
part H pins: 76 IO (io), 77 IO (io), 78 IO (io), 79 IO (io), 80 IO (io), 83 IO (io), 84 IO (io), 85 IO (io), 86 IO (io), 87 IO (io)
part I pins: 88 IO (io), 90 IO (io), 91 IO (io), 92 IO (io), 93 IO (io), 94 IO (io), 95 IO (io), 97 IO (io), 99 IO (io)
part J pins: 100 IO (io), 101 IO (io), 102 IO (io), 104 IO (io), 105 IO (io), 106 IO (io), 107 IO (io), 108 IO (io), 109 IO (io), 112 IO (io)
part K pins: 113 IO (io), 114 IO (io), 115 IO (io), 116 IO (io), 117 IO (io), 119 IO (io), 121 IO (io), 122 IO (io), 123 IO (io), 124 IO (io)
part L pins: 125 IO (io), 127 IO (io), 128 IO (io), 129 IO (io), 130 IO (io), 131 IO (io), 132 IO (io), 134 IO (io), 136 IO (io)
part M pins: 139 INPUT/GCLK1 (in), 140 INPUT/OE1 (in), 141 INPUT/GCLRn (in), 142 INPUT/OE2/GCLK2 (in)
part N pins: 23 TMS/IO (io), 98 TCK/IO (io), 135 TDO/IO (io), 146 TDI/IO (io)
part O pins: 10 VCCIO (3.3 V OR 5.0 V) (power), 25 VCCIO (3.3 V OR 5.0 V) (power), 40 VCCIO (3.3 V OR 5.0 V) (power), 55 VCCIO (3.3 V OR 5.0 V) (power), 56 VCCINT (5.0 V ONLY) (power), 65 VCCINT (5.0 V ONLY) (power), 74 VCCIO (3.3 V OR 5.0 V) (power), 89 VCCIO (3.3 V OR 5.0 V) (power), 103 VCCIO (3.3 V OR 5.0 V) (power), 118 VCCIO (3.3 V OR 5.0 V) (power), 133 VCCIO (3.3 V OR 5.0 V) (power), 137 VCCINT (5.0 V ONLY) (power), 144 VCCINT (5.0 V ONLY) (power), 155 VCCIO (3.3 V OR 5.0 V) (power)
part P pins: 3 GND (power), 18 GND (power), 32 GND (power), 47 GND (power), 57 GND (power), 64 GND (power), 66 GND (power), 81 GND (power), 96 GND (power), 111 GND (power), 126 GND (power), 138 GND (power), 143 GND (power), 148 GND (power)
part Q pins: 1 NC, 11 NC, 39 NC, 54 NC, 67 NC, 82 NC, 110 NC, 120 NC
part A text: BANK A
part B text: BANK B
part C text: BANK C
part D text: BANK D
part E text: BANK E
part F text: BANK F
part G text: BANK G
part H text: BANK H
part I text: BANK I
part J text: BANK J
part K text: BANK K
part L text: BANK L